# Altium integrated library Motorola Microcontroller 8-Bit.IntLib: 909 symbols (part 5 of 31)
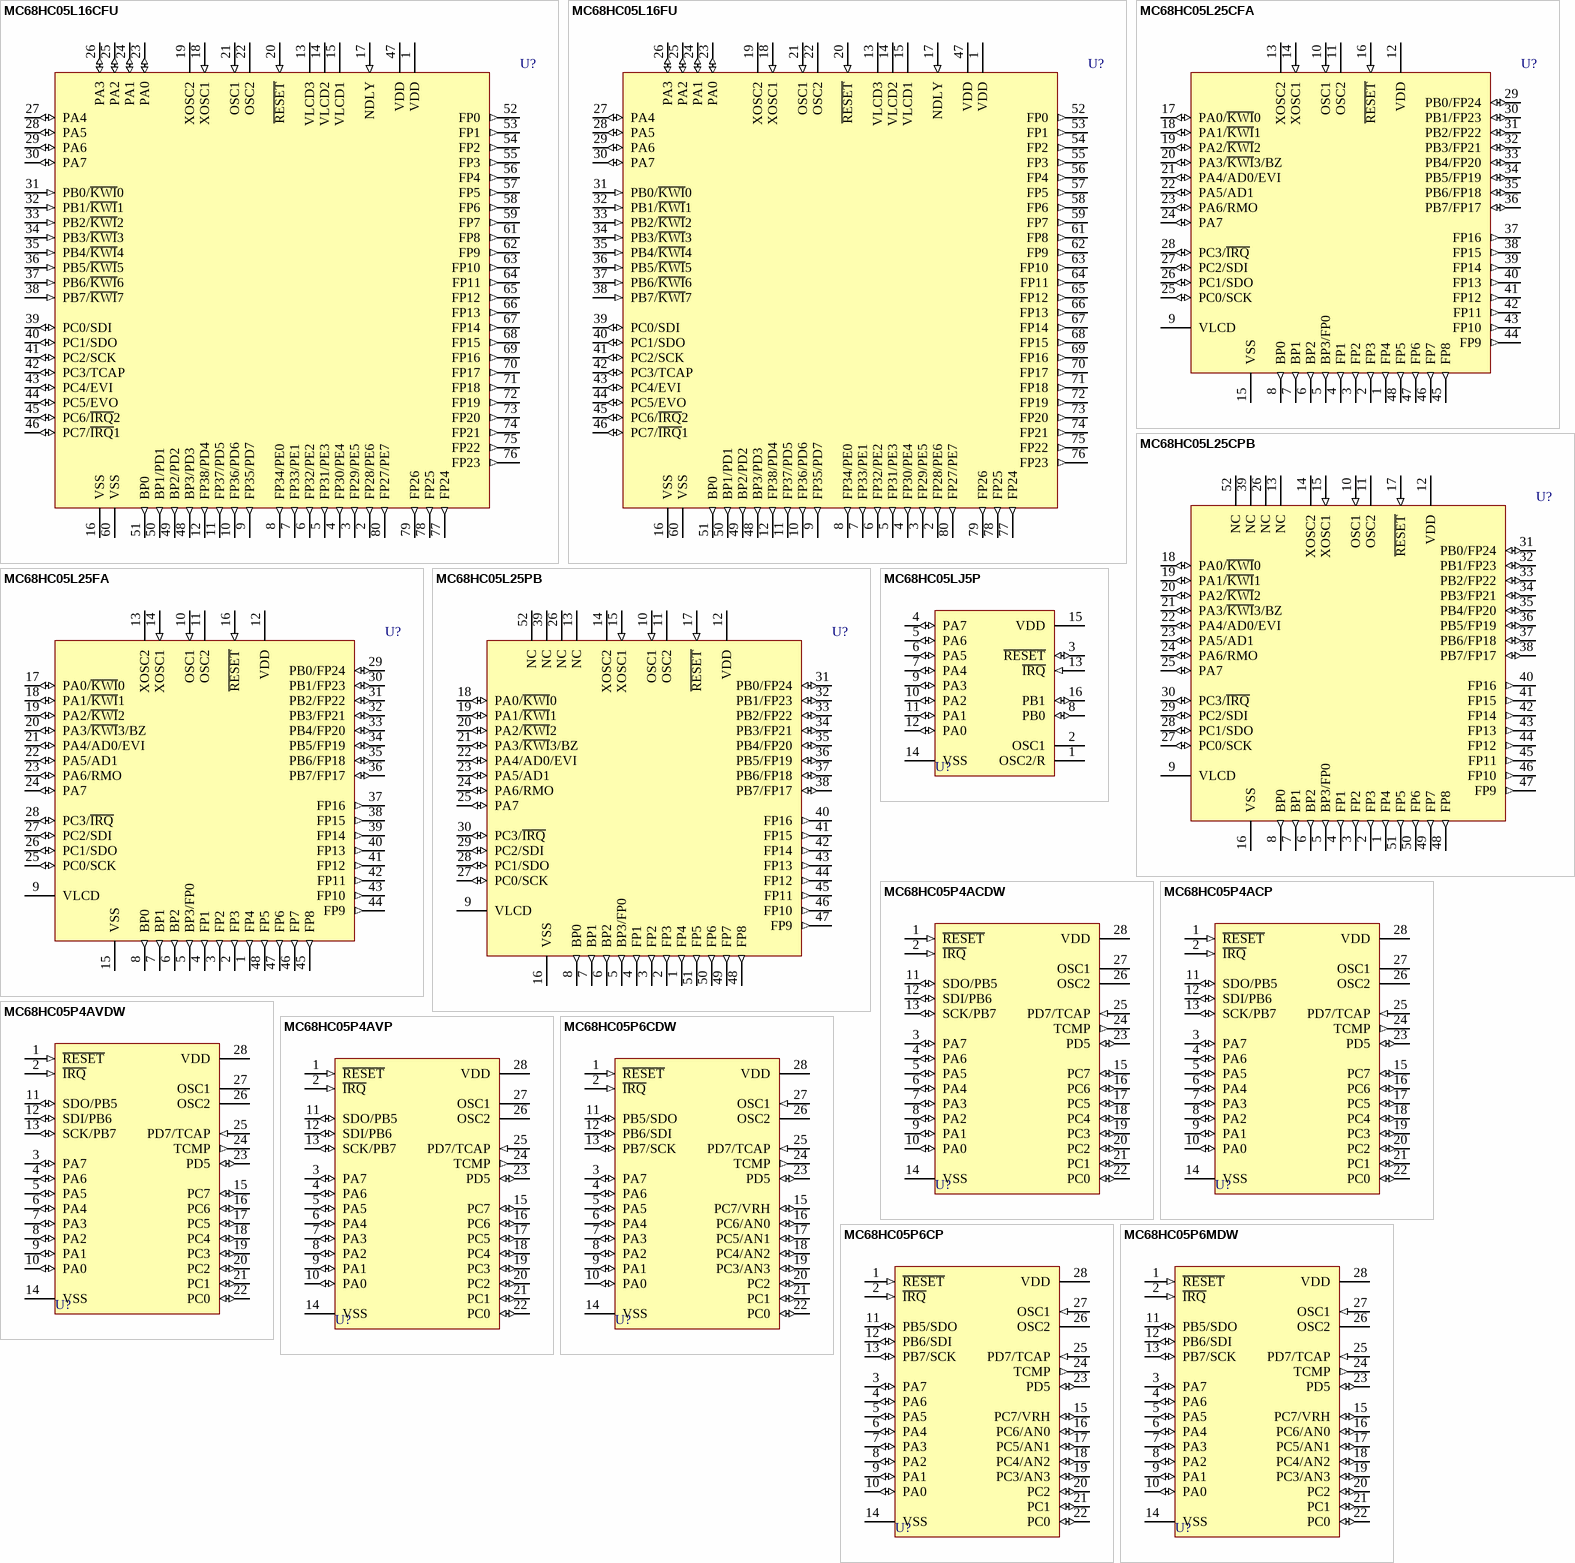
[diagram p117: symbols MC68HC05L16CFU to MC68HC05P6MDW]

## MC68HC05P6CP
designator U?
8-Bit Microcontroller; Published: 17-Jan-2003; LatestRevisionDate: 06-Jun-2005; LatestRevisionNote: Stylized 3D Model Added.; DatasheetVersion: Jan-1999; PackageReference: 710-02; Publisher: Altium Limited; PackageDescription: DIP; 28 Leads; Row Spacing 15.24 mm; Pitch 2.54 mm; ComponentLink1Description: Manufacturer Link; ComponentLink1URL: http://www.freescale.com/
footprint 710-02 (DIP; 28 Leads; Row Spacing 15.24 mm; Pitch 2.54 mm)
3D model 710-02 (DIP; 28 Leads; Row Spacing 15.24 mm; Pitch 2.54 mm)
pins: 1 ~{RESET} (in), 2 ~{IRQ} (in), 3 PA7 (io), 4 PA6 (io), 5 PA5 (io), 6 PA4 (io), 7 PA3 (io), 8 PA2 (io), 9 PA1 (io), 10 PA0 (io), 11 PB5/SDO (io), 12 PB6/SDI (io), 13 PB7/SCK (io), 14 VSS (power), 15 PC7/VRH (io), 16 PC6/AN0 (io), 17 PC5/AN1 (io), 18 PC4/AN2 (io), 19 PC3/AN3 (io), 20 PC2 (io), 21 PC1 (io), 22 PC0 (io), 23 PD5 (io), 24 TCMP (out), 25 PD7/TCAP (in), 26 OSC2, 27 OSC1 (in), 28 VDD (power)

## MC68HC05P6MDW
designator U?
8-Bit Microcontroller; Published: 17-Jan-2003; LatestRevisionDate: 13-Apr-2006; LatestRevisionNote: IPC-7351 Footprint Added.; DatasheetVersion: Jan-1999; PackageReference: 751F-03; Publisher: Altium Limited; PackageDescription: 28-Pin Small Outline Integrated Circuit 1.27 mm Pitch; ComponentLink1Description: Manufacturer Link; ComponentLink1URL: http://www.freescale.com/
footprint 751F-03_N (SOIC, 28-Leads, Body 17.9x7.5mm, Pitch 1.27mm, IPC Medium Density)
footprint 751F-03_L (SOIC, 28-Leads, Body 17.9x7.5mm, Pitch 1.27mm, IPC High Density)
footprint 751F-03_M (SOIC, 28-Leads, Body 17.9x7.5mm, Pitch 1.27mm, IPC Low Density)
3D model 751F-03 (28-Pin Small Outline Integrated Circuit 1.27 mm Pitch)
pins: 1 ~{RESET} (in), 2 ~{IRQ} (in), 3 PA7 (io), 4 PA6 (io), 5 PA5 (io), 6 PA4 (io), 7 PA3 (io), 8 PA2 (io), 9 PA1 (io), 10 PA0 (io), 11 PB5/SDO (io), 12 PB6/SDI (io), 13 PB7/SCK (io), 14 VSS (power), 15 PC7/VRH (io), 16 PC6/AN0 (io), 17 PC5/AN1 (io), 18 PC4/AN2 (io), 19 PC3/AN3 (io), 20 PC2 (io), 21 PC1 (io), 22 PC0 (io), 23 PD5 (io), 24 TCMP (out), 25 PD7/TCAP (in), 26 OSC2, 27 OSC1 (in), 28 VDD (power)

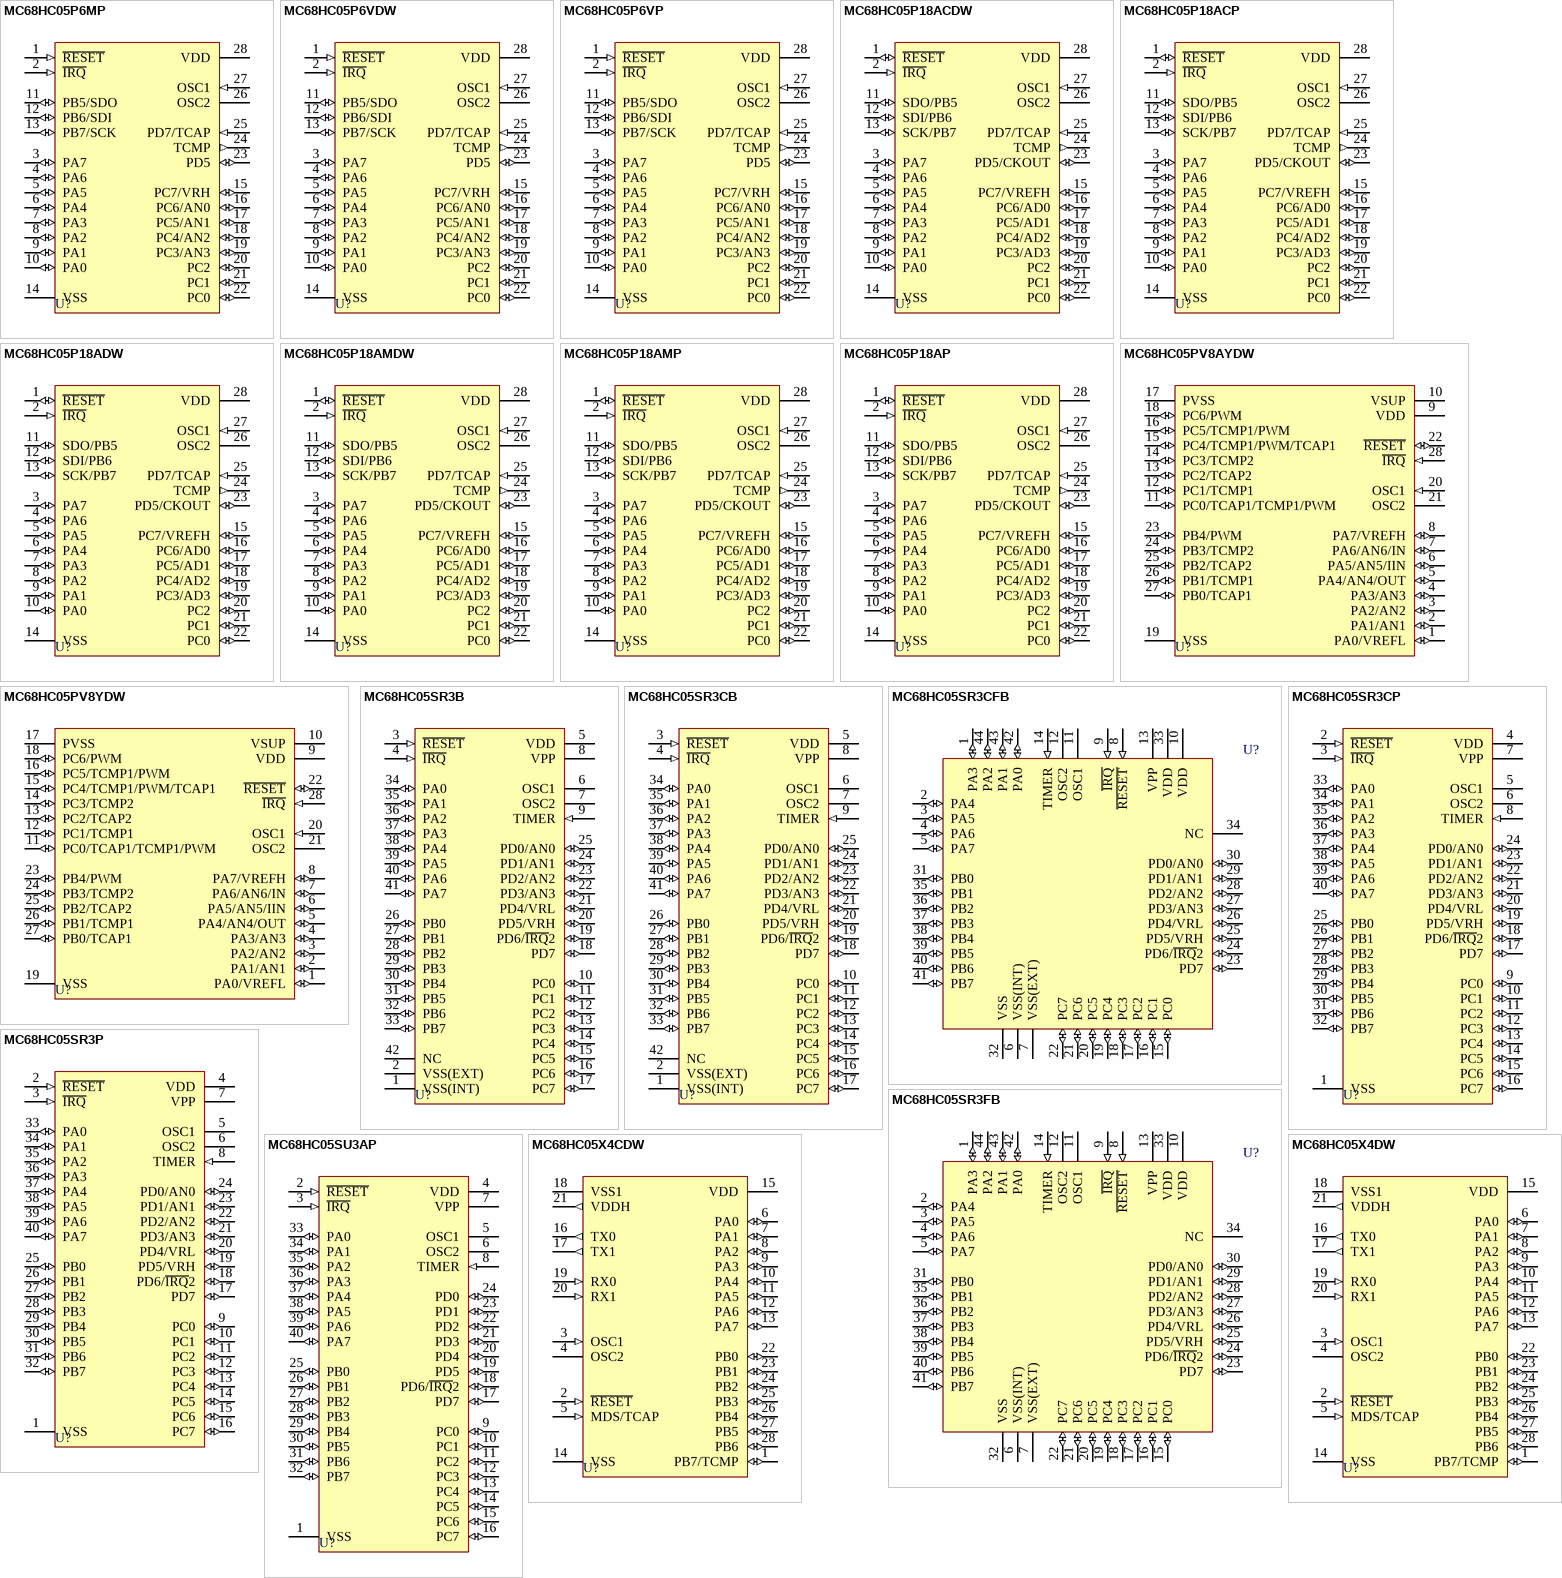
[diagram p12: symbols MC68HC05P6MP to MC68HC05X4DW]

## MC68HC05P6MP
designator U?
8-Bit Microcontroller; Published: 17-Jan-2003; LatestRevisionDate: 06-Jun-2005; LatestRevisionNote: Stylized 3D Model Added.; DatasheetVersion: Jan-1999; PackageReference: 710-02; Publisher: Altium Limited; PackageDescription: DIP; 28 Leads; Row Spacing 15.24 mm; Pitch 2.54 mm; ComponentLink1Description: Manufacturer Link; ComponentLink1URL: http://www.freescale.com/
footprint 710-02 (DIP; 28 Leads; Row Spacing 15.24 mm; Pitch 2.54 mm)
3D model 710-02 (DIP; 28 Leads; Row Spacing 15.24 mm; Pitch 2.54 mm)
pins: 1 ~{RESET} (in), 2 ~{IRQ} (in), 3 PA7 (io), 4 PA6 (io), 5 PA5 (io), 6 PA4 (io), 7 PA3 (io), 8 PA2 (io), 9 PA1 (io), 10 PA0 (io), 11 PB5/SDO (io), 12 PB6/SDI (io), 13 PB7/SCK (io), 14 VSS (power), 15 PC7/VRH (io), 16 PC6/AN0 (io), 17 PC5/AN1 (io), 18 PC4/AN2 (io), 19 PC3/AN3 (io), 20 PC2 (io), 21 PC1 (io), 22 PC0 (io), 23 PD5 (io), 24 TCMP (out), 25 PD7/TCAP (in), 26 OSC2, 27 OSC1 (in), 28 VDD (power)

## MC68HC05P6VDW
designator U?
8-Bit Microcontroller; Published: 17-Jan-2003; LatestRevisionDate: 13-Apr-2006; LatestRevisionNote: IPC-7351 Footprint Added.; DatasheetVersion: Jan-1999; PackageReference: 751F-03; Publisher: Altium Limited; PackageDescription: 28-Pin Small Outline Integrated Circuit 1.27 mm Pitch; ComponentLink1Description: Manufacturer Link; ComponentLink1URL: http://www.freescale.com/
footprint 751F-03_N (SOIC, 28-Leads, Body 17.9x7.5mm, Pitch 1.27mm, IPC Medium Density)
footprint 751F-03_L (SOIC, 28-Leads, Body 17.9x7.5mm, Pitch 1.27mm, IPC High Density)
footprint 751F-03_M (SOIC, 28-Leads, Body 17.9x7.5mm, Pitch 1.27mm, IPC Low Density)
3D model 751F-03 (28-Pin Small Outline Integrated Circuit 1.27 mm Pitch)
pins: 1 ~{RESET} (in), 2 ~{IRQ} (in), 3 PA7 (io), 4 PA6 (io), 5 PA5 (io), 6 PA4 (io), 7 PA3 (io), 8 PA2 (io), 9 PA1 (io), 10 PA0 (io), 11 PB5/SDO (io), 12 PB6/SDI (io), 13 PB7/SCK (io), 14 VSS (power), 15 PC7/VRH (io), 16 PC6/AN0 (io), 17 PC5/AN1 (io), 18 PC4/AN2 (io), 19 PC3/AN3 (io), 20 PC2 (io), 21 PC1 (io), 22 PC0 (io), 23 PD5 (io), 24 TCMP (out), 25 PD7/TCAP (in), 26 OSC2, 27 OSC1 (in), 28 VDD (power)

## MC68HC05P6VP
designator U?
8-Bit Microcontroller; Published: 17-Jan-2003; LatestRevisionDate: 06-Jun-2005; LatestRevisionNote: Stylized 3D Model Added.; DatasheetVersion: Jan-1999; PackageReference: 710-02; Publisher: Altium Limited; PackageDescription: DIP; 28 Leads; Row Spacing 15.24 mm; Pitch 2.54 mm; ComponentLink1Description: Manufacturer Link; ComponentLink1URL: http://www.freescale.com/
footprint 710-02 (DIP; 28 Leads; Row Spacing 15.24 mm; Pitch 2.54 mm)
3D model 710-02 (DIP; 28 Leads; Row Spacing 15.24 mm; Pitch 2.54 mm)
pins: 1 ~{RESET} (in), 2 ~{IRQ} (in), 3 PA7 (io), 4 PA6 (io), 5 PA5 (io), 6 PA4 (io), 7 PA3 (io), 8 PA2 (io), 9 PA1 (io), 10 PA0 (io), 11 PB5/SDO (io), 12 PB6/SDI (io), 13 PB7/SCK (io), 14 VSS (power), 15 PC7/VRH (io), 16 PC6/AN0 (io), 17 PC5/AN1 (io), 18 PC4/AN2 (io), 19 PC3/AN3 (io), 20 PC2 (io), 21 PC1 (io), 22 PC0 (io), 23 PD5 (io), 24 TCMP (out), 25 PD7/TCAP (in), 26 OSC2, 27 OSC1 (in), 28 VDD (power)

## MC68HC05P18ACDW
designator U?
8-Bit Microcontroller; Published: 17-Jan-2003; LatestRevisionDate: 13-Apr-2006; LatestRevisionNote: IPC-7351 Footprint Added.; DatasheetVersion: 23-Feb-2000; PackageReference: 751F-03; Publisher: Altium Limited; PackageDescription: 28-Pin Small Outline Integrated Circuit 1.27 mm Pitch; ComponentLink1Description: Manufacturer Link; ComponentLink1URL: http://www.freescale.com/; ComponentLink2Description: Datasheet; ComponentLink2URL: http://www.freescale.com/files/microcontrollers/doc/data_sheet/MC68HC05P18A.pdf
footprint 751F-03_N (SOIC, 28-Leads, Body 17.9x7.5mm, Pitch 1.27mm, IPC Medium Density)
footprint 751F-03_L (SOIC, 28-Leads, Body 17.9x7.5mm, Pitch 1.27mm, IPC High Density)
footprint 751F-03_M (SOIC, 28-Leads, Body 17.9x7.5mm, Pitch 1.27mm, IPC Low Density)
3D model 751F-03 (28-Pin Small Outline Integrated Circuit 1.27 mm Pitch)
pins: 1 ~{RESET} (io), 2 ~{IRQ} (in), 3 PA7 (io), 4 PA6 (io), 5 PA5 (io), 6 PA4 (io), 7 PA3 (io), 8 PA2 (io), 9 PA1 (io), 10 PA0 (io), 11 SDO/PB5 (io), 12 SDI/PB6 (io), 13 SCK/PB7 (io), 14 VSS (power), 15 PC7/VREFH (io), 16 PC6/AD0 (io), 17 PC5/AD1 (io), 18 PC4/AD2 (io), 19 PC3/AD3 (io), 20 PC2 (io), 21 PC1 (io), 22 PC0 (io), 23 PD5/CKOUT (io), 24 TCMP (out), 25 PD7/TCAP (in), 26 OSC2, 27 OSC1 (in), 28 VDD (power)

## MC68HC05P18ACP
designator U?
8-Bit Microcontroller; Published: 17-Jan-2003; LatestRevisionDate: 06-Jun-2005; LatestRevisionNote: Stylized 3D Model Added.; DatasheetVersion: 23-Feb-2000; PackageReference: 710-02; Publisher: Altium Limited; PackageDescription: DIP; 28 Leads; Row Spacing 15.24 mm; Pitch 2.54 mm; ComponentLink1Description: Manufacturer Link; ComponentLink1URL: http://www.freescale.com/; ComponentLink2Description: Datasheet; ComponentLink2URL: http://www.freescale.com/files/microcontrollers/doc/data_sheet/MC68HC05P18A.pdf
footprint 710-02 (DIP; 28 Leads; Row Spacing 15.24 mm; Pitch 2.54 mm)
3D model 710-02 (DIP; 28 Leads; Row Spacing 15.24 mm; Pitch 2.54 mm)
pins: 1 ~{RESET} (io), 2 ~{IRQ} (in), 3 PA7 (io), 4 PA6 (io), 5 PA5 (io), 6 PA4 (io), 7 PA3 (io), 8 PA2 (io), 9 PA1 (io), 10 PA0 (io), 11 SDO/PB5 (io), 12 SDI/PB6 (io), 13 SCK/PB7 (io), 14 VSS (power), 15 PC7/VREFH (io), 16 PC6/AD0 (io), 17 PC5/AD1 (io), 18 PC4/AD2 (io), 19 PC3/AD3 (io), 20 PC2 (io), 21 PC1 (io), 22 PC0 (io), 23 PD5/CKOUT (io), 24 TCMP (out), 25 PD7/TCAP (in), 26 OSC2, 27 OSC1 (in), 28 VDD (power)

## MC68HC05P18ADW
designator U?
8-Bit Microcontroller; Published: 17-Jan-2003; LatestRevisionDate: 13-Apr-2006; LatestRevisionNote: IPC-7351 Footprint Added.; DatasheetVersion: 23-Feb-2000; PackageReference: 751F-03; Publisher: Altium Limited; PackageDescription: 28-Pin Small Outline Integrated Circuit 1.27 mm Pitch; ComponentLink1Description: Manufacturer Link; ComponentLink1URL: http://www.freescale.com/; ComponentLink2Description: Datasheet; ComponentLink2URL: http://www.freescale.com/files/microcontrollers/doc/data_sheet/MC68HC05P18A.pdf
footprint 751F-03_N (SOIC, 28-Leads, Body 17.9x7.5mm, Pitch 1.27mm, IPC Medium Density)
footprint 751F-03_L (SOIC, 28-Leads, Body 17.9x7.5mm, Pitch 1.27mm, IPC High Density)
footprint 751F-03_M (SOIC, 28-Leads, Body 17.9x7.5mm, Pitch 1.27mm, IPC Low Density)
3D model 751F-03 (28-Pin Small Outline Integrated Circuit 1.27 mm Pitch)
pins: 1 ~{RESET} (io), 2 ~{IRQ} (in), 3 PA7 (io), 4 PA6 (io), 5 PA5 (io), 6 PA4 (io), 7 PA3 (io), 8 PA2 (io), 9 PA1 (io), 10 PA0 (io), 11 SDO/PB5 (io), 12 SDI/PB6 (io), 13 SCK/PB7 (io), 14 VSS (power), 15 PC7/VREFH (io), 16 PC6/AD0 (io), 17 PC5/AD1 (io), 18 PC4/AD2 (io), 19 PC3/AD3 (io), 20 PC2 (io), 21 PC1 (io), 22 PC0 (io), 23 PD5/CKOUT (io), 24 TCMP (out), 25 PD7/TCAP (in), 26 OSC2, 27 OSC1 (in), 28 VDD (power)

## MC68HC05P18AMDW
designator U?
8-Bit Microcontroller; Published: 17-Jan-2003; LatestRevisionDate: 13-Apr-2006; LatestRevisionNote: IPC-7351 Footprint Added.; DatasheetVersion: 23-Feb-2000; PackageReference: 751F-03; Publisher: Altium Limited; PackageDescription: 28-Pin Small Outline Integrated Circuit 1.27 mm Pitch; ComponentLink1Description: Manufacturer Link; ComponentLink1URL: http://www.freescale.com/; ComponentLink2Description: Datasheet; ComponentLink2URL: http://www.freescale.com/files/microcontrollers/doc/data_sheet/MC68HC05P18A.pdf
footprint 751F-03_N (SOIC, 28-Leads, Body 17.9x7.5mm, Pitch 1.27mm, IPC Medium Density)
footprint 751F-03_L (SOIC, 28-Leads, Body 17.9x7.5mm, Pitch 1.27mm, IPC High Density)
footprint 751F-03_M (SOIC, 28-Leads, Body 17.9x7.5mm, Pitch 1.27mm, IPC Low Density)
3D model 751F-03 (28-Pin Small Outline Integrated Circuit 1.27 mm Pitch)
pins: 1 ~{RESET} (io), 2 ~{IRQ} (in), 3 PA7 (io), 4 PA6 (io), 5 PA5 (io), 6 PA4 (io), 7 PA3 (io), 8 PA2 (io), 9 PA1 (io), 10 PA0 (io), 11 SDO/PB5 (io), 12 SDI/PB6 (io), 13 SCK/PB7 (io), 14 VSS (power), 15 PC7/VREFH (io), 16 PC6/AD0 (io), 17 PC5/AD1 (io), 18 PC4/AD2 (io), 19 PC3/AD3 (io), 20 PC2 (io), 21 PC1 (io), 22 PC0 (io), 23 PD5/CKOUT (io), 24 TCMP (out), 25 PD7/TCAP (in), 26 OSC2, 27 OSC1 (in), 28 VDD (power)

## MC68HC05P18AMP
designator U?
8-Bit Microcontroller; Published: 17-Jan-2003; LatestRevisionDate: 06-Jun-2005; LatestRevisionNote: Stylized 3D Model Added.; DatasheetVersion: 23-Feb-2000; PackageReference: 710-02; Publisher: Altium Limited; PackageDescription: DIP; 28 Leads; Row Spacing 15.24 mm; Pitch 2.54 mm; ComponentLink1Description: Manufacturer Link; ComponentLink1URL: http://www.freescale.com/; ComponentLink2Description: Datasheet; ComponentLink2URL: http://www.freescale.com/files/microcontrollers/doc/data_sheet/MC68HC05P18A.pdf
footprint 710-02 (DIP; 28 Leads; Row Spacing 15.24 mm; Pitch 2.54 mm)
3D model 710-02 (DIP; 28 Leads; Row Spacing 15.24 mm; Pitch 2.54 mm)
pins: 1 ~{RESET} (io), 2 ~{IRQ} (in), 3 PA7 (io), 4 PA6 (io), 5 PA5 (io), 6 PA4 (io), 7 PA3 (io), 8 PA2 (io), 9 PA1 (io), 10 PA0 (io), 11 SDO/PB5 (io), 12 SDI/PB6 (io), 13 SCK/PB7 (io), 14 VSS (power), 15 PC7/VREFH (io), 16 PC6/AD0 (io), 17 PC5/AD1 (io), 18 PC4/AD2 (io), 19 PC3/AD3 (io), 20 PC2 (io), 21 PC1 (io), 22 PC0 (io), 23 PD5/CKOUT (io), 24 TCMP (out), 25 PD7/TCAP (in), 26 OSC2, 27 OSC1 (in), 28 VDD (power)

## MC68HC05P18AP
designator U?
8-Bit Microcontroller; Published: 17-Jan-2003; LatestRevisionDate: 06-Jun-2005; LatestRevisionNote: Stylized 3D Model Added.; DatasheetVersion: 23-Feb-2000; PackageReference: 710-02; Publisher: Altium Limited; PackageDescription: DIP; 28 Leads; Row Spacing 15.24 mm; Pitch 2.54 mm; ComponentLink1Description: Manufacturer Link; ComponentLink1URL: http://www.freescale.com/; ComponentLink2Description: Datasheet; ComponentLink2URL: http://www.freescale.com/files/microcontrollers/doc/data_sheet/MC68HC05P18A.pdf
footprint 710-02 (DIP; 28 Leads; Row Spacing 15.24 mm; Pitch 2.54 mm)
3D model 710-02 (DIP; 28 Leads; Row Spacing 15.24 mm; Pitch 2.54 mm)
pins: 1 ~{RESET} (io), 2 ~{IRQ} (in), 3 PA7 (io), 4 PA6 (io), 5 PA5 (io), 6 PA4 (io), 7 PA3 (io), 8 PA2 (io), 9 PA1 (io), 10 PA0 (io), 11 SDO/PB5 (io), 12 SDI/PB6 (io), 13 SCK/PB7 (io), 14 VSS (power), 15 PC7/VREFH (io), 16 PC6/AD0 (io), 17 PC5/AD1 (io), 18 PC4/AD2 (io), 19 PC3/AD3 (io), 20 PC2 (io), 21 PC1 (io), 22 PC0 (io), 23 PD5/CKOUT (io), 24 TCMP (out), 25 PD7/TCAP (in), 26 OSC2, 27 OSC1 (in), 28 VDD (power)

## MC68HC05PV8AYDW
designator U?
8-Bit Microcontroller; Published: 17-Jan-2003; LatestRevisionDate: 13-Apr-2006; LatestRevisionNote: IPC-7351 Footprint Added.; DatasheetVersion: Rev 1.9, 2001; PackageReference: 751F-03; Publisher: Altium Limited; PackageDescription: 28-Pin Small Outline Integrated Circuit 1.27 mm Pitch; ComponentLink1Description: Manufacturer Link; ComponentLink1URL: http://www.freescale.com/; ComponentLink2Description: Datasheet; ComponentLink2URL: http://www.freescale.com/files/microcontrollers/doc/data_sheet/MC68HC05PV8.pdf
footprint 751F-03_N (SOIC, 28-Leads, Body 17.9x7.5mm, Pitch 1.27mm, IPC Medium Density)
footprint 751F-03_L (SOIC, 28-Leads, Body 17.9x7.5mm, Pitch 1.27mm, IPC High Density)
footprint 751F-03_M (SOIC, 28-Leads, Body 17.9x7.5mm, Pitch 1.27mm, IPC Low Density)
3D model 751F-03 (28-Pin Small Outline Integrated Circuit 1.27 mm Pitch)
pins: 1 PA0/VREFL (io), 2 PA1/AN1 (io), 3 PA2/AN2 (io), 4 PA3/AN3 (io), 5 PA4/AN4/OUT (io), 6 PA5/AN5/IIN (io), 7 PA6/AN6/IN (io), 8 PA7/VREFH (io), 9 VDD (power), 10 VSUP (power), 11 PC0/TCAP1/TCMP1/PWM (io), 12 PC1/TCMP1 (io), 13 PC2/TCAP2 (io), 14 PC3/TCMP2 (io), 15 PC4/TCMP1/PWM/TCAP1 (io), 16 PC5/TCMP1/PWM (io), 17 PVSS (power), 18 PC6/PWM (io), 19 VSS (power), 20 OSC1 (in), 21 OSC2, 22 ~{RESET} (io), 23 PB4/PWM (io), 24 PB3/TCMP2 (io), 25 PB2/TCAP2 (io), 26 PB1/TCMP1 (io), 27 PB0/TCAP1 (io), 28 ~{IRQ} (in)

## MC68HC05PV8YDW
designator U?
8-Bit Microcontroller; Published: 17-Jan-2003; LatestRevisionDate: 13-Apr-2006; LatestRevisionNote: IPC-7351 Footprint Added.; DatasheetVersion: Rev 1.9, 2001; PackageReference: 751F-03; Publisher: Altium Limited; PackageDescription: 28-Pin Small Outline Integrated Circuit 1.27 mm Pitch; ComponentLink1Description: Manufacturer Link; ComponentLink1URL: http://www.freescale.com/; ComponentLink2Description: Datasheet; ComponentLink2URL: http://www.freescale.com/files/microcontrollers/doc/data_sheet/MC68HC05PV8.pdf
footprint 751F-03_N (SOIC, 28-Leads, Body 17.9x7.5mm, Pitch 1.27mm, IPC Medium Density)
footprint 751F-03_L (SOIC, 28-Leads, Body 17.9x7.5mm, Pitch 1.27mm, IPC High Density)
footprint 751F-03_M (SOIC, 28-Leads, Body 17.9x7.5mm, Pitch 1.27mm, IPC Low Density)
3D model 751F-03 (28-Pin Small Outline Integrated Circuit 1.27 mm Pitch)
pins: 1 PA0/VREFL (io), 2 PA1/AN1 (io), 3 PA2/AN2 (io), 4 PA3/AN3 (io), 5 PA4/AN4/OUT (io), 6 PA5/AN5/IIN (io), 7 PA6/AN6/IN (io), 8 PA7/VREFH (io), 9 VDD (power), 10 VSUP (power), 11 PC0/TCAP1/TCMP1/PWM (io), 12 PC1/TCMP1 (io), 13 PC2/TCAP2 (io), 14 PC3/TCMP2 (io), 15 PC4/TCMP1/PWM/TCAP1 (io), 16 PC5/TCMP1/PWM (io), 17 PVSS (power), 18 PC6/PWM (io), 19 VSS (power), 20 OSC1 (in), 21 OSC2, 22 ~{RESET} (io), 23 PB4/PWM (io), 24 PB3/TCMP2 (io), 25 PB2/TCAP2 (io), 26 PB1/TCMP1 (io), 27 PB0/TCAP1 (io), 28 ~{IRQ} (in)

## MC68HC05SR3B
designator U?
8-Bit Microcontroller; Published: 17-Jan-2003; LatestRevisionDate: 06-Jun-2005; LatestRevisionNote: Stylized 3D Model Added.; DatasheetVersion: Rev 2, 2000; PackageVersion: rev5, Apr-2002; PackageReference: 858-01; Publisher: Altium Limited; PackageDescription: DIP, Plastic; 42 Leads; Row Spacing 15.24 mm; Pitch 1.778 mm; ComponentLink1Description: Manufacturer Link; ComponentLink1URL: http://www.freescale.com/
footprint 858-01 (DIP, Plastic; 42 Leads; Row Spacing 15.24 mm; Pitch 1.778 mm)
3D model 858-01 (DIP, Plastic; 42 Leads; Row Spacing 15.24 mm; Pitch 1.778 mm)
pins: 1 VSS(INT) (power), 2 VSS(EXT) (power), 3 ~{RESET} (in), 4 ~{IRQ} (in), 5 VDD (power), 6 OSC1, 7 OSC2, 8 VPP (power), 9 TIMER (in), 10 PC0 (io), 11 PC1 (io), 12 PC2 (io), 13 PC3 (io), 14 PC4 (io), 15 PC5 (io), 16 PC6 (io), 17 PC7 (io), 18 PD7 (io), 19 PD6/~{IRQ}2 (io), 20 PD5/VRH (io), 21 PD4/VRL (io), 22 PD3/AN3 (io), 23 PD2/AN2 (io), 24 PD1/AN1 (io), 25 PD0/AN0 (io), 26 PB0 (io), 27 PB1 (io), 28 PB2 (io), 29 PB3 (io), 30 PB4 (io), 31 PB5 (io), 32 PB6 (io), 33 PB7 (io), 34 PA0 (io), 35 PA1 (io), 36 PA2 (io), 37 PA3 (io), 38 PA4 (io), 39 PA5 (io), 40 PA6 (io), 41 PA7 (io), 42 NC

## MC68HC05SR3CB
designator U?
8-Bit Microcontroller; Published: 17-Jan-2003; LatestRevisionDate: 06-Jun-2005; LatestRevisionNote: Stylized 3D Model Added.; DatasheetVersion: Rev 2, 2000; PackageVersion: rev5, Apr-2002; PackageReference: 858-01; Publisher: Altium Limited; PackageDescription: DIP, Plastic; 42 Leads; Row Spacing 15.24 mm; Pitch 1.778 mm; ComponentLink1Description: Manufacturer Link; ComponentLink1URL: http://www.freescale.com/
footprint 858-01 (DIP, Plastic; 42 Leads; Row Spacing 15.24 mm; Pitch 1.778 mm)
3D model 858-01 (DIP, Plastic; 42 Leads; Row Spacing 15.24 mm; Pitch 1.778 mm)
pins: 1 VSS(INT) (power), 2 VSS(EXT) (power), 3 ~{RESET} (in), 4 ~{IRQ} (in), 5 VDD (power), 6 OSC1, 7 OSC2, 8 VPP (power), 9 TIMER (in), 10 PC0 (io), 11 PC1 (io), 12 PC2 (io), 13 PC3 (io), 14 PC4 (io), 15 PC5 (io), 16 PC6 (io), 17 PC7 (io), 18 PD7 (io), 19 PD6/~{IRQ}2 (io), 20 PD5/VRH (io), 21 PD4/VRL (io), 22 PD3/AN3 (io), 23 PD2/AN2 (io), 24 PD1/AN1 (io), 25 PD0/AN0 (io), 26 PB0 (io), 27 PB1 (io), 28 PB2 (io), 29 PB3 (io), 30 PB4 (io), 31 PB5 (io), 32 PB6 (io), 33 PB7 (io), 34 PA0 (io), 35 PA1 (io), 36 PA2 (io), 37 PA3 (io), 38 PA4 (io), 39 PA5 (io), 40 PA6 (io), 41 PA7 (io), 42 NC

## MC68HC05SR3CFB
designator U?
8-Bit Microcontroller; Published: 17-Jan-2003; LatestRevisionDate: 13-Apr-2006; LatestRevisionNote: IPC-7351 Footprint Added.; DatasheetVersion: Rev 2, 2000; PackageVersion: rev5, Apr-2002; PackageReference: 824A-01; Publisher: Altium Limited; PackageDescription: 44-Pin Quad Flat Pack 0.8 mm Pitch; Code_JEDEC: MS-022-AB; Code_IPC: QFP80P1320X1320-44; ComponentLink1Description: Manufacturer Link; ComponentLink1URL: http://www.freescale.com/
footprint 824A-01_N (QFP, 44-Leads, Body 10x10mm, Pitch 0.8mm, IPC Medium Density)
footprint 824A-01_L (QFP, 44-Leads, Body 10x10mm, Pitch 0.8mm, IPC High Density)
footprint 824A-01_M (QFP, 44-Leads, Body 10x10mm, Pitch 0.8mm, IPC Low Density)
3D model MC68HC05-824A-01 (44-Pin Quad Flat Pack 0.8 mm Pitch)
pins: 1 PA3 (io), 2 PA4 (io), 3 PA5 (io), 4 PA6 (io), 5 PA7 (io), 6 VSS(INT) (power), 7 VSS(EXT) (power), 8 ~{RESET} (in), 9 ~{IRQ} (in), 10 VDD (power), 11 OSC1, 12 OSC2, 13 VPP (power), 14 TIMER (in), 15 PC0 (io), 16 PC1 (io), 17 PC2 (io), 18 PC3 (io), 19 PC4 (io), 20 PC5 (io), 21 PC6 (io), 22 PC7 (io), 23 PD7 (io), 24 PD6/~{IRQ}2 (io), 25 PD5/VRH (io), 26 PD4/VRL (io), 27 PD3/AN3 (io), 28 PD2/AN2 (io), 29 PD1/AN1 (io), 30 PD0/AN0 (io), 31 PB0 (io), 32 VSS (power), 33 VDD (power), 34 NC, 35 PB1 (io), 36 PB2 (io), 37 PB3 (io), 38 PB4 (io), 39 PB5 (io), 40 PB6 (io), 41 PB7 (io), 42 PA0 (io), 43 PA1 (io), 44 PA2 (io)

## MC68HC05SR3CP
designator U?
8-Bit Microcontroller; Published: 17-Jan-2003; LatestRevisionDate: 06-Jun-2005; LatestRevisionNote: Stylized 3D Model Added.; DatasheetVersion: Rev 2, 2000; PackageReference: 711-03; Publisher: Altium Limited; PackageDescription: DIP; 40 Leads; Row Spacing 15.24 mm; Pitch 2.54 mm; ComponentLink1Description: Manufacturer Link; ComponentLink1URL: http://www.freescale.com/
footprint 711-03 (DIP; 40 Leads; Row Spacing 15.24 mm; Pitch 2.54 mm)
3D model 711-03 (DIP; 40 Leads; Row Spacing 15.24 mm; Pitch 2.54 mm)
pins: 1 VSS (power), 2 ~{RESET} (in), 3 ~{IRQ} (in), 4 VDD (power), 5 OSC1, 6 OSC2, 7 VPP (power), 8 TIMER (in), 9 PC0 (io), 10 PC1 (io), 11 PC2 (io), 12 PC3 (io), 13 PC4 (io), 14 PC5 (io), 15 PC6 (io), 16 PC7 (io), 17 PD7 (io), 18 PD6/~{IRQ}2 (io), 19 PD5/VRH (io), 20 PD4/VRL (io), 21 PD3/AN3 (io), 22 PD2/AN2 (io), 23 PD1/AN1 (io), 24 PD0/AN0 (io), 25 PB0 (io), 26 PB1 (io), 27 PB2 (io), 28 PB3 (io), 29 PB4 (io), 30 PB5 (io), 31 PB6 (io), 32 PB7 (io), 33 PA0 (io), 34 PA1 (io), 35 PA2 (io), 36 PA3 (io), 37 PA4 (io), 38 PA5 (io), 39 PA6 (io), 40 PA7 (io)

## MC68HC05SR3FB
designator U?
8-Bit Microcontroller; Published: 17-Jan-2003; LatestRevisionDate: 13-Apr-2006; LatestRevisionNote: IPC-7351 Footprint Added.; DatasheetVersion: Rev 2, 2000; PackageVersion: rev5, Apr-2002; PackageReference: 824A-01; Publisher: Altium Limited; PackageDescription: 44-Pin Quad Flat Pack 0.8 mm Pitch; Code_JEDEC: MS-022-AB; Code_IPC: QFP80P1320X1320-44; ComponentLink1Description: Manufacturer Link; ComponentLink1URL: http://www.freescale.com/
footprint 824A-01_N (QFP, 44-Leads, Body 10x10mm, Pitch 0.8mm, IPC Medium Density)
footprint 824A-01_L (QFP, 44-Leads, Body 10x10mm, Pitch 0.8mm, IPC High Density)
footprint 824A-01_M (QFP, 44-Leads, Body 10x10mm, Pitch 0.8mm, IPC Low Density)
3D model MC68HC05-824A-01 (44-Pin Quad Flat Pack 0.8 mm Pitch)
pins: 1 PA3 (io), 2 PA4 (io), 3 PA5 (io), 4 PA6 (io), 5 PA7 (io), 6 VSS(INT) (power), 7 VSS(EXT) (power), 8 ~{RESET} (in), 9 ~{IRQ} (in), 10 VDD (power), 11 OSC1, 12 OSC2, 13 VPP (power), 14 TIMER (in), 15 PC0 (io), 16 PC1 (io), 17 PC2 (io), 18 PC3 (io), 19 PC4 (io), 20 PC5 (io), 21 PC6 (io), 22 PC7 (io), 23 PD7 (io), 24 PD6/~{IRQ}2 (io), 25 PD5/VRH (io), 26 PD4/VRL (io), 27 PD3/AN3 (io), 28 PD2/AN2 (io), 29 PD1/AN1 (io), 30 PD0/AN0 (io), 31 PB0 (io), 32 VSS (power), 33 VDD (power), 34 NC, 35 PB1 (io), 36 PB2 (io), 37 PB3 (io), 38 PB4 (io), 39 PB5 (io), 40 PB6 (io), 41 PB7 (io), 42 PA0 (io), 43 PA1 (io), 44 PA2 (io)

## MC68HC05SR3P
designator U?
8-Bit Microcontroller; Published: 17-Jan-2003; LatestRevisionDate: 06-Jun-2005; LatestRevisionNote: Stylized 3D Model Added.; DatasheetVersion: Rev 2, 2000; PackageReference: 711-03; Publisher: Altium Limited; PackageDescription: DIP; 40 Leads; Row Spacing 15.24 mm; Pitch 2.54 mm; ComponentLink1Description: Manufacturer Link; ComponentLink1URL: http://www.freescale.com/
footprint 711-03 (DIP; 40 Leads; Row Spacing 15.24 mm; Pitch 2.54 mm)
3D model 711-03 (DIP; 40 Leads; Row Spacing 15.24 mm; Pitch 2.54 mm)
pins: 1 VSS (power), 2 ~{RESET} (in), 3 ~{IRQ} (in), 4 VDD (power), 5 OSC1, 6 OSC2, 7 VPP (power), 8 TIMER (in), 9 PC0 (io), 10 PC1 (io), 11 PC2 (io), 12 PC3 (io), 13 PC4 (io), 14 PC5 (io), 15 PC6 (io), 16 PC7 (io), 17 PD7 (io), 18 PD6/~{IRQ}2 (io), 19 PD5/VRH (io), 20 PD4/VRL (io), 21 PD3/AN3 (io), 22 PD2/AN2 (io), 23 PD1/AN1 (io), 24 PD0/AN0 (io), 25 PB0 (io), 26 PB1 (io), 27 PB2 (io), 28 PB3 (io), 29 PB4 (io), 30 PB5 (io), 31 PB6 (io), 32 PB7 (io), 33 PA0 (io), 34 PA1 (io), 35 PA2 (io), 36 PA3 (io), 37 PA4 (io), 38 PA5 (io), 39 PA6 (io), 40 PA7 (io)

## MC68HC05SU3AP
designator U?
8-Bit Microcontroller; Published: 17-Jan-2003; LatestRevisionDate: 06-Jun-2005; LatestRevisionNote: Stylized 3D Model Added.; DatasheetVersion: Rev 3, 2000; PackageReference: 711-03; Publisher: Altium Limited; PackageDescription: DIP; 40 Leads; Row Spacing 15.24 mm; Pitch 2.54 mm; ComponentLink1Description: Manufacturer Link; ComponentLink1URL: http://www.freescale.com/; ComponentLink2Description: Datasheet; ComponentLink2URL: http://www.freescale.com/files/microcontrollers/doc/data_sheet/MC68HC05SU3A.pdf
footprint 711-03 (DIP; 40 Leads; Row Spacing 15.24 mm; Pitch 2.54 mm)
3D model 711-03 (DIP; 40 Leads; Row Spacing 15.24 mm; Pitch 2.54 mm)
pins: 1 VSS (power), 2 ~{RESET} (in), 3 ~{IRQ} (in), 4 VDD (power), 5 OSC1, 6 OSC2, 7 VPP (power), 8 TIMER (in), 9 PC0 (io), 10 PC1 (io), 11 PC2 (io), 12 PC3 (io), 13 PC4 (io), 14 PC5 (io), 15 PC6 (io), 16 PC7 (io), 17 PD7 (io), 18 PD6/~{IRQ}2 (io), 19 PD5 (io), 20 PD4 (io), 21 PD3 (io), 22 PD2 (io), 23 PD1 (io), 24 PD0 (io), 25 PB0 (io), 26 PB1 (io), 27 PB2 (io), 28 PB3 (io), 29 PB4 (io), 30 PB5 (io), 31 PB6 (io), 32 PB7 (io), 33 PA0 (io), 34 PA1 (io), 35 PA2 (io), 36 PA3 (io), 37 PA4 (io), 38 PA5 (io), 39 PA6 (io), 40 PA7 (io)

## MC68HC05X4CDW
designator U?
8-Bit Microcontroller; Published: 17-Jan-2003; LatestRevisionDate: 13-Apr-2006; LatestRevisionNote: IPC-7351 Footprint Added.; DatasheetVersion: Rev 1.0, 1998; PackageReference: 751F-03; Publisher: Altium Limited; PackageDescription: 28-Pin Small Outline Integrated Circuit 1.27 mm Pitch; ComponentLink1Description: Manufacturer Link; ComponentLink1URL: http://www.freescale.com/; ComponentLink2Description: Datasheet; ComponentLink2URL: http://www.freescale.com/files/microcontrollers/doc/data_sheet/MC68HC05X4.pdf
footprint 751F-03_N (SOIC, 28-Leads, Body 17.9x7.5mm, Pitch 1.27mm, IPC Medium Density)
footprint 751F-03_L (SOIC, 28-Leads, Body 17.9x7.5mm, Pitch 1.27mm, IPC High Density)
footprint 751F-03_M (SOIC, 28-Leads, Body 17.9x7.5mm, Pitch 1.27mm, IPC Low Density)
3D model 751F-03 (28-Pin Small Outline Integrated Circuit 1.27 mm Pitch)
pins: 1 PB7/TCMP (io), 2 ~{RESET} (in), 3 OSC1 (in), 4 OSC2, 5 MDS/TCAP (in), 6 PA0 (io), 7 PA1 (io), 8 PA2 (io), 9 PA3 (io), 10 PA4 (io), 11 PA5 (io), 12 PA6 (io), 13 PA7 (io), 14 VSS (power), 15 VDD (power), 16 TX0 (out), 17 TX1 (out), 18 VSS1 (power), 19 RX0 (in), 20 RX1 (in), 21 VDDH (out), 22 PB0 (io), 23 PB1 (io), 24 PB2 (io), 25 PB3 (io), 26 PB4 (io), 27 PB5 (io), 28 PB6 (io)

## MC68HC05X4DW
designator U?
8-Bit Microcontroller; Published: 17-Jan-2003; LatestRevisionDate: 13-Apr-2006; LatestRevisionNote: IPC-7351 Footprint Added.; DatasheetVersion: Rev 1.0, 1998; PackageReference: 751F-03; Publisher: Altium Limited; PackageDescription: 28-Pin Small Outline Integrated Circuit 1.27 mm Pitch; ComponentLink1Description: Manufacturer Link; ComponentLink1URL: http://www.freescale.com/; ComponentLink2Description: Datasheet; ComponentLink2URL: http://www.freescale.com/files/microcontrollers/doc/data_sheet/MC68HC05X4.pdf
footprint 751F-03_N (SOIC, 28-Leads, Body 17.9x7.5mm, Pitch 1.27mm, IPC Medium Density)
footprint 751F-03_L (SOIC, 28-Leads, Body 17.9x7.5mm, Pitch 1.27mm, IPC High Density)
footprint 751F-03_M (SOIC, 28-Leads, Body 17.9x7.5mm, Pitch 1.27mm, IPC Low Density)
3D model 751F-03 (28-Pin Small Outline Integrated Circuit 1.27 mm Pitch)
pins: 1 PB7/TCMP (io), 2 ~{RESET} (in), 3 OSC1 (in), 4 OSC2, 5 MDS/TCAP (in), 6 PA0 (io), 7 PA1 (io), 8 PA2 (io), 9 PA3 (io), 10 PA4 (io), 11 PA5 (io), 12 PA6 (io), 13 PA7 (io), 14 VSS (power), 15 VDD (power), 16 TX0 (out), 17 TX1 (out), 18 VSS1 (power), 19 RX0 (in), 20 RX1 (in), 21 VDDH (out), 22 PB0 (io), 23 PB1 (io), 24 PB2 (io), 25 PB3 (io), 26 PB4 (io), 27 PB5 (io), 28 PB6 (io)

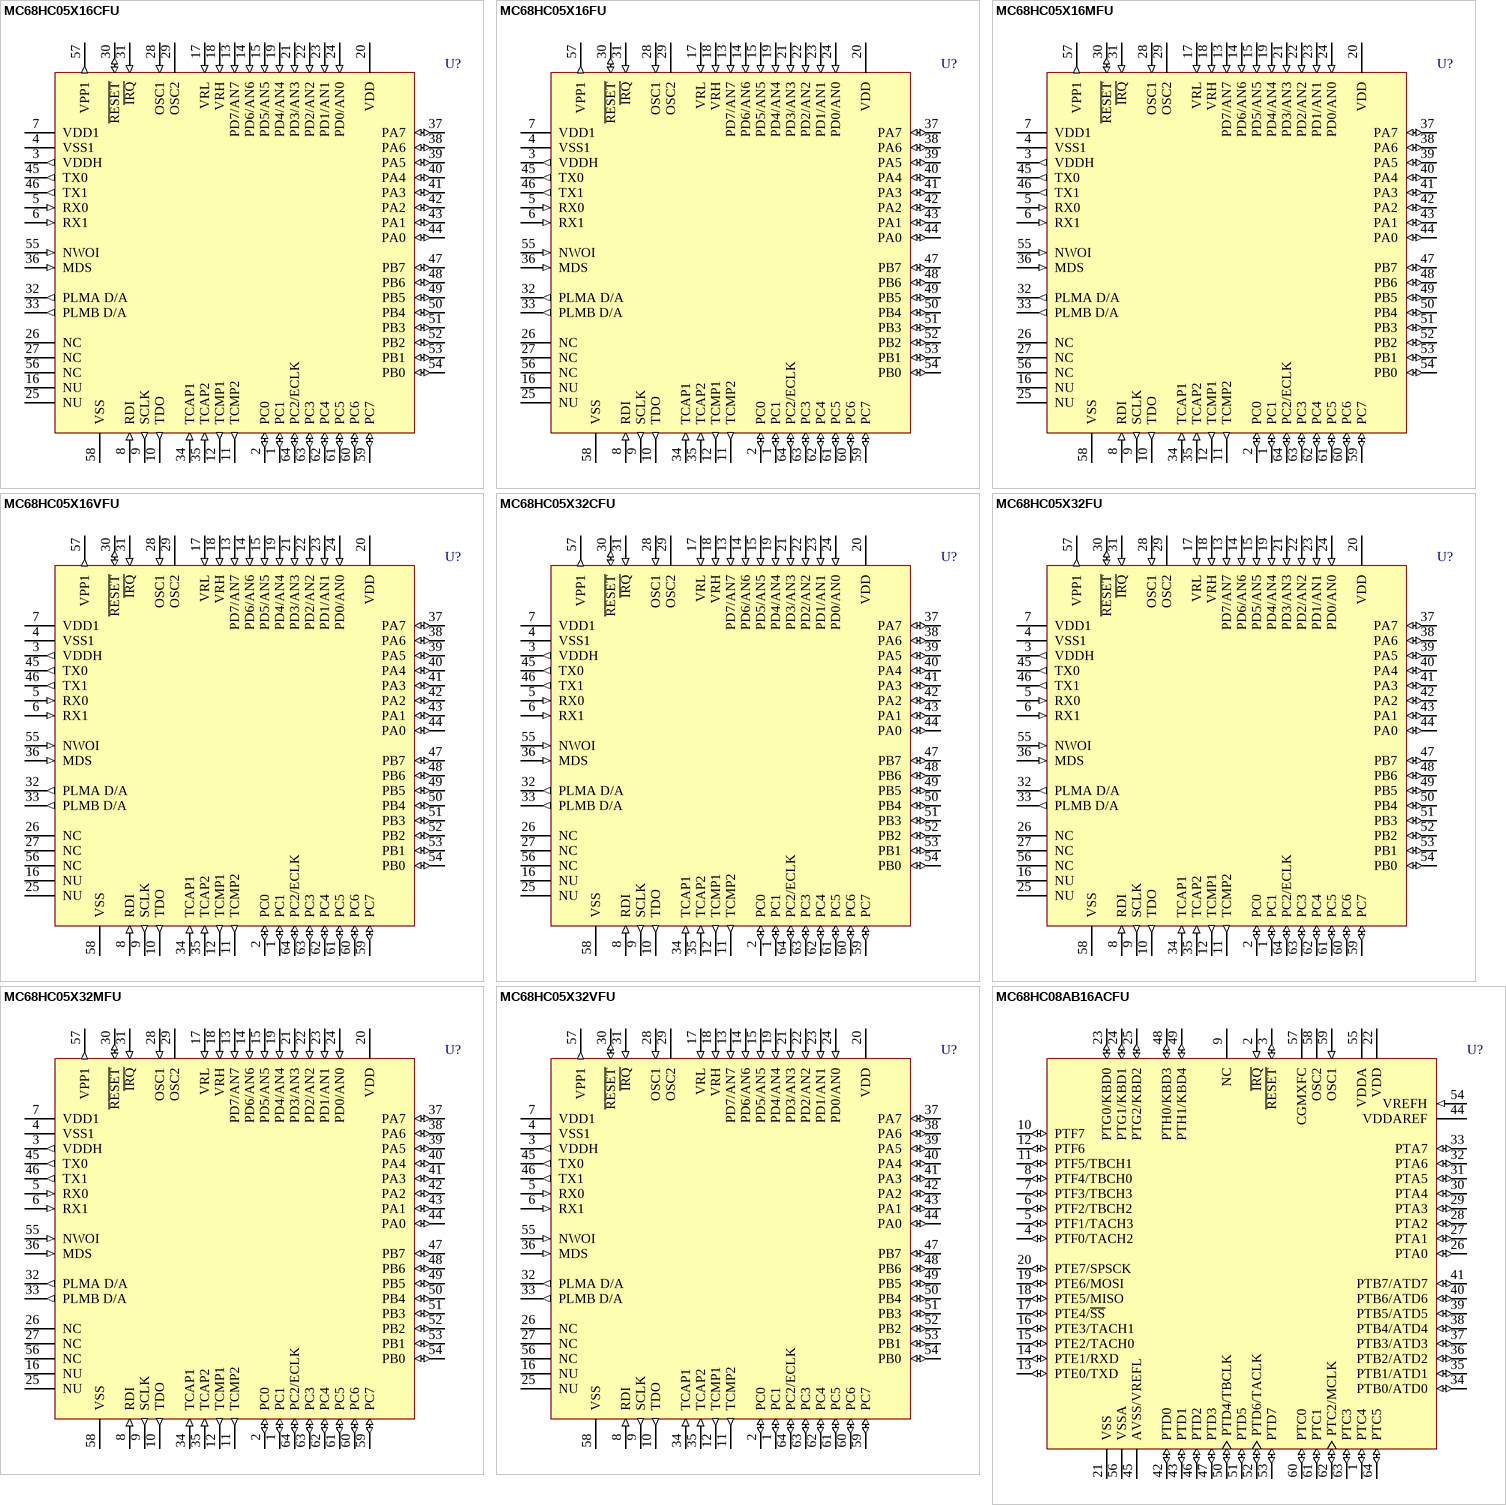
[diagram p13: symbols MC68HC05X16CFU to MC68HC08AB16ACFU]

## MC68HC05X16CFU
designator U?
8-Bit Microcontroller; Note: Pins 16 and 25 (NU=Non-User pin) should be tied to VSS in an electrically noisy environment.; Published: 17-Jan-2003; LatestRevisionDate: 13-Apr-2006; LatestRevisionNote: IPC-7351 Footprint Added.; DatasheetVersion: Rev 1, 1997; PackageVersion: rev4, Jul-2002; PackageReference: 840C; Publisher: Altium Limited; PackageDescription: 64-Pin Quad Flat Pack 0.8 mm Pitch; ComponentLink1Description: Manufacturer Link; ComponentLink1URL: http://www.freescale.com/; ComponentLink2Description: Datasheet; ComponentLink2URL: http://www.freescale.com/files/microcontrollers/doc/data_sheet/MC68HC05X16.pdf
footprint 840C_N (QFP, 64-Leads, Body 14x14mm, Pitch 0.8mm, IPC Medium Density)
footprint 840C_L (QFP, 64-Leads, Body 14x14mm, Pitch 0.8mm, IPC High Density)
footprint 840C_M (QFP, 64-Leads, Body 14x14mm, Pitch 0.8mm, IPC Low Density)
3D model MC68HC05-840C (64-Pin Quad Flat Pack 0.8 mm Pitch)
pins: 1 PC1 (io), 2 PC0 (io), 3 VDDH (out), 4 VSS1 (power), 5 RX0 (in), 6 RX1 (in), 7 VDD1 (power), 8 RDI (in), 9 SCLK (out), 10 TDO (out), 11 TCMP2 (out), 12 TCMP1 (out), 13 PD7/AN7 (in), 14 PD6/AN6 (in), 15 PD5/AN5 (in), 16 NU, 17 VRL (in), 18 VRH (in), 19 PD4/AN4 (in), 20 VDD (power), 21 PD3/AN3 (in), 22 PD2/AN2 (in), 23 PD1/AN1 (in), 24 PD0/AN0 (in), 25 NU, 26 NC, 27 NC, 28 OSC1 (in), 29 OSC2, 30 ~{RESET} (io), 31 ~{IRQ} (in), 32 PLMA D/A (out), 33 PLMB D/A (out), 34 TCAP1 (in), 35 TCAP2 (in), 36 MDS (in), 37 PA7 (io), 38 PA6 (io), 39 PA5 (io), 40 PA4 (io), 41 PA3 (io), 42 PA2 (io), 43 PA1 (io), 44 PA0 (io), 45 TX0 (out), 46 TX1 (out), 47 PB7 (io), 48 PB6 (io), 49 PB5 (io), 50 PB4 (io), 51 PB3 (io), 52 PB2 (io), 53 PB1 (io), 54 PB0 (io), 55 NWOI (in), 56 NC, 57 VPP1 (out), 58 VSS (power), 59 PC7 (io), 60 PC6 (io), 61 PC5 (io), 62 PC4 (io), 63 PC3 (io), 64 PC2/ECLK (io)

## MC68HC05X16FU
designator U?
8-Bit Microcontroller; Note: Pins 16 and 25 (NU=Non-User pin) should be tied to VSS in an electrically noisy environment.; Published: 17-Jan-2003; LatestRevisionDate: 13-Apr-2006; LatestRevisionNote: IPC-7351 Footprint Added.; DatasheetVersion: Rev 1, 1997; PackageVersion: rev4, Jul-2002; PackageReference: 840C; Publisher: Altium Limited; PackageDescription: 64-Pin Quad Flat Pack 0.8 mm Pitch; ComponentLink1Description: Manufacturer Link; ComponentLink1URL: http://www.freescale.com/; ComponentLink2Description: Datasheet; ComponentLink2URL: http://www.freescale.com/files/microcontrollers/doc/data_sheet/MC68HC05X16.pdf
footprint 840C_N (QFP, 64-Leads, Body 14x14mm, Pitch 0.8mm, IPC Medium Density)
footprint 840C_L (QFP, 64-Leads, Body 14x14mm, Pitch 0.8mm, IPC High Density)
footprint 840C_M (QFP, 64-Leads, Body 14x14mm, Pitch 0.8mm, IPC Low Density)
3D model MC68HC05-840C (64-Pin Quad Flat Pack 0.8 mm Pitch)
pins: 1 PC1 (io), 2 PC0 (io), 3 VDDH (out), 4 VSS1 (power), 5 RX0 (in), 6 RX1 (in), 7 VDD1 (power), 8 RDI (in), 9 SCLK (out), 10 TDO (out), 11 TCMP2 (out), 12 TCMP1 (out), 13 PD7/AN7 (in), 14 PD6/AN6 (in), 15 PD5/AN5 (in), 16 NU, 17 VRL (in), 18 VRH (in), 19 PD4/AN4 (in), 20 VDD (power), 21 PD3/AN3 (in), 22 PD2/AN2 (in), 23 PD1/AN1 (in), 24 PD0/AN0 (in), 25 NU, 26 NC, 27 NC, 28 OSC1 (in), 29 OSC2, 30 ~{RESET} (io), 31 ~{IRQ} (in), 32 PLMA D/A (out), 33 PLMB D/A (out), 34 TCAP1 (in), 35 TCAP2 (in), 36 MDS (in), 37 PA7 (io), 38 PA6 (io), 39 PA5 (io), 40 PA4 (io), 41 PA3 (io), 42 PA2 (io), 43 PA1 (io), 44 PA0 (io), 45 TX0 (out), 46 TX1 (out), 47 PB7 (io), 48 PB6 (io), 49 PB5 (io), 50 PB4 (io), 51 PB3 (io), 52 PB2 (io), 53 PB1 (io), 54 PB0 (io), 55 NWOI (in), 56 NC, 57 VPP1 (out), 58 VSS (power), 59 PC7 (io), 60 PC6 (io), 61 PC5 (io), 62 PC4 (io), 63 PC3 (io), 64 PC2/ECLK (io)

## MC68HC05X16MFU
designator U?
8-Bit Microcontroller; Note: Pins 16 and 25 (NU=Non-User pin) should be tied to VSS in an electrically noisy environment.; Published: 17-Jan-2003; LatestRevisionDate: 13-Apr-2006; LatestRevisionNote: IPC-7351 Footprint Added.; DatasheetVersion: Rev 1, 1997; PackageVersion: rev4, Jul-2002; PackageReference: 840C; Publisher: Altium Limited; PackageDescription: 64-Pin Quad Flat Pack 0.8 mm Pitch; ComponentLink1Description: Manufacturer Link; ComponentLink1URL: http://www.freescale.com/; ComponentLink2Description: Datasheet; ComponentLink2URL: http://www.freescale.com/files/microcontrollers/doc/data_sheet/MC68HC05X16.pdf
footprint 840C_N (QFP, 64-Leads, Body 14x14mm, Pitch 0.8mm, IPC Medium Density)
footprint 840C_L (QFP, 64-Leads, Body 14x14mm, Pitch 0.8mm, IPC High Density)
footprint 840C_M (QFP, 64-Leads, Body 14x14mm, Pitch 0.8mm, IPC Low Density)
3D model MC68HC05-840C (64-Pin Quad Flat Pack 0.8 mm Pitch)
pins: 1 PC1 (io), 2 PC0 (io), 3 VDDH (out), 4 VSS1 (power), 5 RX0 (in), 6 RX1 (in), 7 VDD1 (power), 8 RDI (in), 9 SCLK (out), 10 TDO (out), 11 TCMP2 (out), 12 TCMP1 (out), 13 PD7/AN7 (in), 14 PD6/AN6 (in), 15 PD5/AN5 (in), 16 NU, 17 VRL (in), 18 VRH (in), 19 PD4/AN4 (in), 20 VDD (power), 21 PD3/AN3 (in), 22 PD2/AN2 (in), 23 PD1/AN1 (in), 24 PD0/AN0 (in), 25 NU, 26 NC, 27 NC, 28 OSC1 (in), 29 OSC2, 30 ~{RESET} (io), 31 ~{IRQ} (in), 32 PLMA D/A (out), 33 PLMB D/A (out), 34 TCAP1 (in), 35 TCAP2 (in), 36 MDS (in), 37 PA7 (io), 38 PA6 (io), 39 PA5 (io), 40 PA4 (io), 41 PA3 (io), 42 PA2 (io), 43 PA1 (io), 44 PA0 (io), 45 TX0 (out), 46 TX1 (out), 47 PB7 (io), 48 PB6 (io), 49 PB5 (io), 50 PB4 (io), 51 PB3 (io), 52 PB2 (io), 53 PB1 (io), 54 PB0 (io), 55 NWOI (in), 56 NC, 57 VPP1 (out), 58 VSS (power), 59 PC7 (io), 60 PC6 (io), 61 PC5 (io), 62 PC4 (io), 63 PC3 (io), 64 PC2/ECLK (io)

## MC68HC05X16VFU
designator U?
8-Bit Microcontroller; Note: Pins 16 and 25 (NU=Non-User pin) should be tied to VSS in an electrically noisy environment.; Published: 17-Jan-2003; LatestRevisionDate: 13-Apr-2006; LatestRevisionNote: IPC-7351 Footprint Added.; DatasheetVersion: Rev 1, 1997; PackageVersion: rev4, Jul-2002; PackageReference: 840C; Publisher: Altium Limited; PackageDescription: 64-Pin Quad Flat Pack 0.8 mm Pitch; ComponentLink1Description: Manufacturer Link; ComponentLink1URL: http://www.freescale.com/; ComponentLink2Description: Datasheet; ComponentLink2URL: http://www.freescale.com/files/microcontrollers/doc/data_sheet/MC68HC05X16.pdf
footprint 840C_N (QFP, 64-Leads, Body 14x14mm, Pitch 0.8mm, IPC Medium Density)
footprint 840C_L (QFP, 64-Leads, Body 14x14mm, Pitch 0.8mm, IPC High Density)
footprint 840C_M (QFP, 64-Leads, Body 14x14mm, Pitch 0.8mm, IPC Low Density)
3D model MC68HC05-840C (64-Pin Quad Flat Pack 0.8 mm Pitch)
pins: 1 PC1 (io), 2 PC0 (io), 3 VDDH (out), 4 VSS1 (power), 5 RX0 (in), 6 RX1 (in), 7 VDD1 (power), 8 RDI (in), 9 SCLK (out), 10 TDO (out), 11 TCMP2 (out), 12 TCMP1 (out), 13 PD7/AN7 (in), 14 PD6/AN6 (in), 15 PD5/AN5 (in), 16 NU, 17 VRL (in), 18 VRH (in), 19 PD4/AN4 (in), 20 VDD (power), 21 PD3/AN3 (in), 22 PD2/AN2 (in), 23 PD1/AN1 (in), 24 PD0/AN0 (in), 25 NU, 26 NC, 27 NC, 28 OSC1 (in), 29 OSC2, 30 ~{RESET} (io), 31 ~{IRQ} (in), 32 PLMA D/A (out), 33 PLMB D/A (out), 34 TCAP1 (in), 35 TCAP2 (in), 36 MDS (in), 37 PA7 (io), 38 PA6 (io), 39 PA5 (io), 40 PA4 (io), 41 PA3 (io), 42 PA2 (io), 43 PA1 (io), 44 PA0 (io), 45 TX0 (out), 46 TX1 (out), 47 PB7 (io), 48 PB6 (io), 49 PB5 (io), 50 PB4 (io), 51 PB3 (io), 52 PB2 (io), 53 PB1 (io), 54 PB0 (io), 55 NWOI (in), 56 NC, 57 VPP1 (out), 58 VSS (power), 59 PC7 (io), 60 PC6 (io), 61 PC5 (io), 62 PC4 (io), 63 PC3 (io), 64 PC2/ECLK (io)

## MC68HC05X32CFU
designator U?
8-Bit Microcontroller; Note: Pins 16 and 25 (NU=Non-User pin) should be tied to VSS in an electrically noisy environment.; Published: 17-Jan-2003; LatestRevisionDate: 13-Apr-2006; LatestRevisionNote: IPC-7351 Footprint Added.; DatasheetVersion: Rev 1, 1997; PackageVersion: rev4, Jul-2002; PackageReference: 840C; Publisher: Altium Limited; PackageDescription: 64-Pin Quad Flat Pack 0.8 mm Pitch; ComponentLink1Description: Manufacturer Link; ComponentLink1URL: http://www.freescale.com/; ComponentLink2Description: Datasheet; ComponentLink2URL: http://www.freescale.com/files/microcontrollers/doc/data_sheet/MC68HC05X16.pdf
footprint 840C_N (QFP, 64-Leads, Body 14x14mm, Pitch 0.8mm, IPC Medium Density)
footprint 840C_L (QFP, 64-Leads, Body 14x14mm, Pitch 0.8mm, IPC High Density)
footprint 840C_M (QFP, 64-Leads, Body 14x14mm, Pitch 0.8mm, IPC Low Density)
3D model MC68HC05-840C (64-Pin Quad Flat Pack 0.8 mm Pitch)
pins: 1 PC1 (io), 2 PC0 (io), 3 VDDH (out), 4 VSS1 (power), 5 RX0 (in), 6 RX1 (in), 7 VDD1 (power), 8 RDI (in), 9 SCLK (out), 10 TDO (out), 11 TCMP2 (out), 12 TCMP1 (out), 13 PD7/AN7 (in), 14 PD6/AN6 (in), 15 PD5/AN5 (in), 16 NU, 17 VRL (in), 18 VRH (in), 19 PD4/AN4 (in), 20 VDD (power), 21 PD3/AN3 (in), 22 PD2/AN2 (in), 23 PD1/AN1 (in), 24 PD0/AN0 (in), 25 NU, 26 NC, 27 NC, 28 OSC1 (in), 29 OSC2, 30 ~{RESET} (io), 31 ~{IRQ} (in), 32 PLMA D/A (out), 33 PLMB D/A (out), 34 TCAP1 (in), 35 TCAP2 (in), 36 MDS (in), 37 PA7 (io), 38 PA6 (io), 39 PA5 (io), 40 PA4 (io), 41 PA3 (io), 42 PA2 (io), 43 PA1 (io), 44 PA0 (io), 45 TX0 (out), 46 TX1 (out), 47 PB7 (io), 48 PB6 (io), 49 PB5 (io), 50 PB4 (io), 51 PB3 (io), 52 PB2 (io), 53 PB1 (io), 54 PB0 (io), 55 NWOI (in), 56 NC, 57 VPP1 (out), 58 VSS (power), 59 PC7 (io), 60 PC6 (io), 61 PC5 (io), 62 PC4 (io), 63 PC3 (io), 64 PC2/ECLK (io)

## MC68HC05X32FU
designator U?
8-Bit Microcontroller; Note: Pins 16 and 25 (NU=Non-User pin) should be tied to VSS in an electrically noisy environment.; Published: 17-Jan-2003; LatestRevisionDate: 13-Apr-2006; LatestRevisionNote: IPC-7351 Footprint Added.; DatasheetVersion: Rev 1, 1997; PackageVersion: rev4, Jul-2002; PackageReference: 840C; Publisher: Altium Limited; PackageDescription: 64-Pin Quad Flat Pack 0.8 mm Pitch; ComponentLink1Description: Manufacturer Link; ComponentLink1URL: http://www.freescale.com/; ComponentLink2Description: Datasheet; ComponentLink2URL: http://www.freescale.com/files/microcontrollers/doc/data_sheet/MC68HC05X16.pdf
footprint 840C_N (QFP, 64-Leads, Body 14x14mm, Pitch 0.8mm, IPC Medium Density)
footprint 840C_L (QFP, 64-Leads, Body 14x14mm, Pitch 0.8mm, IPC High Density)
footprint 840C_M (QFP, 64-Leads, Body 14x14mm, Pitch 0.8mm, IPC Low Density)
3D model MC68HC05-840C (64-Pin Quad Flat Pack 0.8 mm Pitch)
pins: 1 PC1 (io), 2 PC0 (io), 3 VDDH (out), 4 VSS1 (power), 5 RX0 (in), 6 RX1 (in), 7 VDD1 (power), 8 RDI (in), 9 SCLK (out), 10 TDO (out), 11 TCMP2 (out), 12 TCMP1 (out), 13 PD7/AN7 (in), 14 PD6/AN6 (in), 15 PD5/AN5 (in), 16 NU, 17 VRL (in), 18 VRH (in), 19 PD4/AN4 (in), 20 VDD (power), 21 PD3/AN3 (in), 22 PD2/AN2 (in), 23 PD1/AN1 (in), 24 PD0/AN0 (in), 25 NU, 26 NC, 27 NC, 28 OSC1 (in), 29 OSC2, 30 ~{RESET} (io), 31 ~{IRQ} (in), 32 PLMA D/A (out), 33 PLMB D/A (out), 34 TCAP1 (in), 35 TCAP2 (in), 36 MDS (in), 37 PA7 (io), 38 PA6 (io), 39 PA5 (io), 40 PA4 (io), 41 PA3 (io), 42 PA2 (io), 43 PA1 (io), 44 PA0 (io), 45 TX0 (out), 46 TX1 (out), 47 PB7 (io), 48 PB6 (io), 49 PB5 (io), 50 PB4 (io), 51 PB3 (io), 52 PB2 (io), 53 PB1 (io), 54 PB0 (io), 55 NWOI (in), 56 NC, 57 VPP1 (out), 58 VSS (power), 59 PC7 (io), 60 PC6 (io), 61 PC5 (io), 62 PC4 (io), 63 PC3 (io), 64 PC2/ECLK (io)

## MC68HC05X32MFU
designator U?
8-Bit Microcontroller; Note: Pins 16 and 25 (NU=Non-User pin) should be tied to VSS in an electrically noisy environment.; Published: 17-Jan-2003; LatestRevisionDate: 13-Apr-2006; LatestRevisionNote: IPC-7351 Footprint Added.; DatasheetVersion: Rev 1, 1997; PackageVersion: rev4, Jul-2002; PackageReference: 840C; Publisher: Altium Limited; PackageDescription: 64-Pin Quad Flat Pack 0.8 mm Pitch; ComponentLink1Description: Manufacturer Link; ComponentLink1URL: http://www.freescale.com/; ComponentLink2Description: Datasheet; ComponentLink2URL: http://www.freescale.com/files/microcontrollers/doc/data_sheet/MC68HC05X16.pdf
footprint 840C_N (QFP, 64-Leads, Body 14x14mm, Pitch 0.8mm, IPC Medium Density)
footprint 840C_L (QFP, 64-Leads, Body 14x14mm, Pitch 0.8mm, IPC High Density)
footprint 840C_M (QFP, 64-Leads, Body 14x14mm, Pitch 0.8mm, IPC Low Density)
3D model MC68HC05-840C (64-Pin Quad Flat Pack 0.8 mm Pitch)
pins: 1 PC1 (io), 2 PC0 (io), 3 VDDH (out), 4 VSS1 (power), 5 RX0 (in), 6 RX1 (in), 7 VDD1 (power), 8 RDI (in), 9 SCLK (out), 10 TDO (out), 11 TCMP2 (out), 12 TCMP1 (out), 13 PD7/AN7 (in), 14 PD6/AN6 (in), 15 PD5/AN5 (in), 16 NU, 17 VRL (in), 18 VRH (in), 19 PD4/AN4 (in), 20 VDD (power), 21 PD3/AN3 (in), 22 PD2/AN2 (in), 23 PD1/AN1 (in), 24 PD0/AN0 (in), 25 NU, 26 NC, 27 NC, 28 OSC1 (in), 29 OSC2, 30 ~{RESET} (io), 31 ~{IRQ} (in), 32 PLMA D/A (out), 33 PLMB D/A (out), 34 TCAP1 (in), 35 TCAP2 (in), 36 MDS (in), 37 PA7 (io), 38 PA6 (io), 39 PA5 (io), 40 PA4 (io), 41 PA3 (io), 42 PA2 (io), 43 PA1 (io), 44 PA0 (io), 45 TX0 (out), 46 TX1 (out), 47 PB7 (io), 48 PB6 (io), 49 PB5 (io), 50 PB4 (io), 51 PB3 (io), 52 PB2 (io), 53 PB1 (io), 54 PB0 (io), 55 NWOI (in), 56 NC, 57 VPP1 (out), 58 VSS (power), 59 PC7 (io), 60 PC6 (io), 61 PC5 (io), 62 PC4 (io), 63 PC3 (io), 64 PC2/ECLK (io)

## MC68HC05X32VFU
designator U?
8-Bit Microcontroller; Note: Pins 16 and 25 (NU=Non-User pin) should be tied to VSS in an electrically noisy environment.; Published: 17-Jan-2003; LatestRevisionDate: 13-Apr-2006; LatestRevisionNote: IPC-7351 Footprint Added.; DatasheetVersion: Rev 1, 1997; PackageVersion: rev4, Jul-2002; PackageReference: 840C; Publisher: Altium Limited; PackageDescription: 64-Pin Quad Flat Pack 0.8 mm Pitch; ComponentLink1Description: Manufacturer Link; ComponentLink1URL: http://www.freescale.com/; ComponentLink2Description: Datasheet; ComponentLink2URL: http://www.freescale.com/files/microcontrollers/doc/data_sheet/MC68HC05X16.pdf
footprint 840C_N (QFP, 64-Leads, Body 14x14mm, Pitch 0.8mm, IPC Medium Density)
footprint 840C_L (QFP, 64-Leads, Body 14x14mm, Pitch 0.8mm, IPC High Density)
footprint 840C_M (QFP, 64-Leads, Body 14x14mm, Pitch 0.8mm, IPC Low Density)
3D model MC68HC05-840C (64-Pin Quad Flat Pack 0.8 mm Pitch)
pins: 1 PC1 (io), 2 PC0 (io), 3 VDDH (out), 4 VSS1 (power), 5 RX0 (in), 6 RX1 (in), 7 VDD1 (power), 8 RDI (in), 9 SCLK (out), 10 TDO (out), 11 TCMP2 (out), 12 TCMP1 (out), 13 PD7/AN7 (in), 14 PD6/AN6 (in), 15 PD5/AN5 (in), 16 NU, 17 VRL (in), 18 VRH (in), 19 PD4/AN4 (in), 20 VDD (power), 21 PD3/AN3 (in), 22 PD2/AN2 (in), 23 PD1/AN1 (in), 24 PD0/AN0 (in), 25 NU, 26 NC, 27 NC, 28 OSC1 (in), 29 OSC2, 30 ~{RESET} (io), 31 ~{IRQ} (in), 32 PLMA D/A (out), 33 PLMB D/A (out), 34 TCAP1 (in), 35 TCAP2 (in), 36 MDS (in), 37 PA7 (io), 38 PA6 (io), 39 PA5 (io), 40 PA4 (io), 41 PA3 (io), 42 PA2 (io), 43 PA1 (io), 44 PA0 (io), 45 TX0 (out), 46 TX1 (out), 47 PB7 (io), 48 PB6 (io), 49 PB5 (io), 50 PB4 (io), 51 PB3 (io), 52 PB2 (io), 53 PB1 (io), 54 PB0 (io), 55 NWOI (in), 56 NC, 57 VPP1 (out), 58 VSS (power), 59 PC7 (io), 60 PC6 (io), 61 PC5 (io), 62 PC4 (io), 63 PC3 (io), 64 PC2/ECLK (io)

## MC68HC08AB16ACFU
designator U?
8-Bit Microcontroller; Published: 17-Jan-2003; LatestRevisionDate: 13-Apr-2006; LatestRevisionNote: IPC-7351 Footprint Added.; DatasheetVersion: Rev 2, 2000; PackageVersion: rev2, 2000; PackageReference: 840B-01; Publisher: Altium Limited; PackageDescription: 64-Pin Quad Flat Pack 0.8 mm Pitch; Code_IPC: QFP80P1720X1720-64; ComponentLink1Description: Manufacturer Link; ComponentLink1URL: http://www.freescale.com/; ComponentLink2Description: Datasheet; ComponentLink2URL: http://www.freescale.com/files/microcontrollers/doc/data_sheet/MC68HC08AB16A.pdf
footprint 840B-01_N (QFP, 64-Leads, Body 14x14mm, Pitch 0.8mm, IPC Medium Density)
footprint 840B-01_L (QFP, 64-Leads, Body 14x14mm, Pitch 0.8mm, IPC High Density)
footprint 840B-01_M (QFP, 64-Leads, Body 14x14mm, Pitch 0.8mm, IPC Low Density)
3D model MC68HC08-840B-01 (64-Pin Quad Flat Pack 0.8 mm Pitch)
pins: 1 PTC4 (io), 2 ~{IRQ} (in), 3 ~{RESET} (io), 4 PTF0/TACH2 (io), 5 PTF1/TACH3 (io), 6 PTF2/TBCH2 (io), 7 PTF3/TBCH3 (io), 8 PTF4/TBCH0 (io), 9 NC, 10 PTF7 (io), 11 PTF5/TBCH1 (io), 12 PTF6 (io), 13 PTE0/TXD (io), 14 PTE1/RXD (io), 15 PTE2/TACH0 (io), 16 PTE3/TACH1 (io), 17 PTE4/~{SS} (io), 18 PTE5/MISO (io), 19 PTE6/MOSI (io), 20 PTE7/SPSCK (io), 21 VSS (power), 22 VDD (power), 23 PTG0/KBD0 (io), 24 PTG1/KBD1 (io), 25 PTG2/KBD2 (io), 26 PTA0 (io), 27 PTA1 (io), 28 PTA2 (io), 29 PTA3 (io), 30 PTA4 (io), 31 PTA5 (io), 32 PTA6 (io), 33 PTA7 (io), 34 PTB0/ATD0 (io), 35 PTB1/ATD1 (io), 36 PTB2/ATD2 (io), 37 PTB3/ATD3 (io), 38 PTB4/ATD4 (io), 39 PTB5/ATD5 (io), 40 PTB6/ATD6 (io), 41 PTB7/ATD7 (io), 42 PTD0 (io), 43 PTD1 (io), 44 VDDAREF (power), 45 AVSS/VREFL (power), 46 PTD2 (io), 47 PTD3 (io), 48 PTH0/KBD3 (io), 49 PTH1/KBD4 (io), 50 PTD4/TBCLK (io), 51 PTD5 (io), 52 PTD6/TACLK (io), 53 PTD7 (io), 54 VREFH (in), 55 VDDA (power), 56 VSSA (power), 57 CGMXFC, 58 OSC2, 59 OSC1 (in), 60 PTC0 (io), 61 PTC1 (io), 62 PTC2/MCLK (io), 63 PTC3 (io), 64 PTC5 (io)

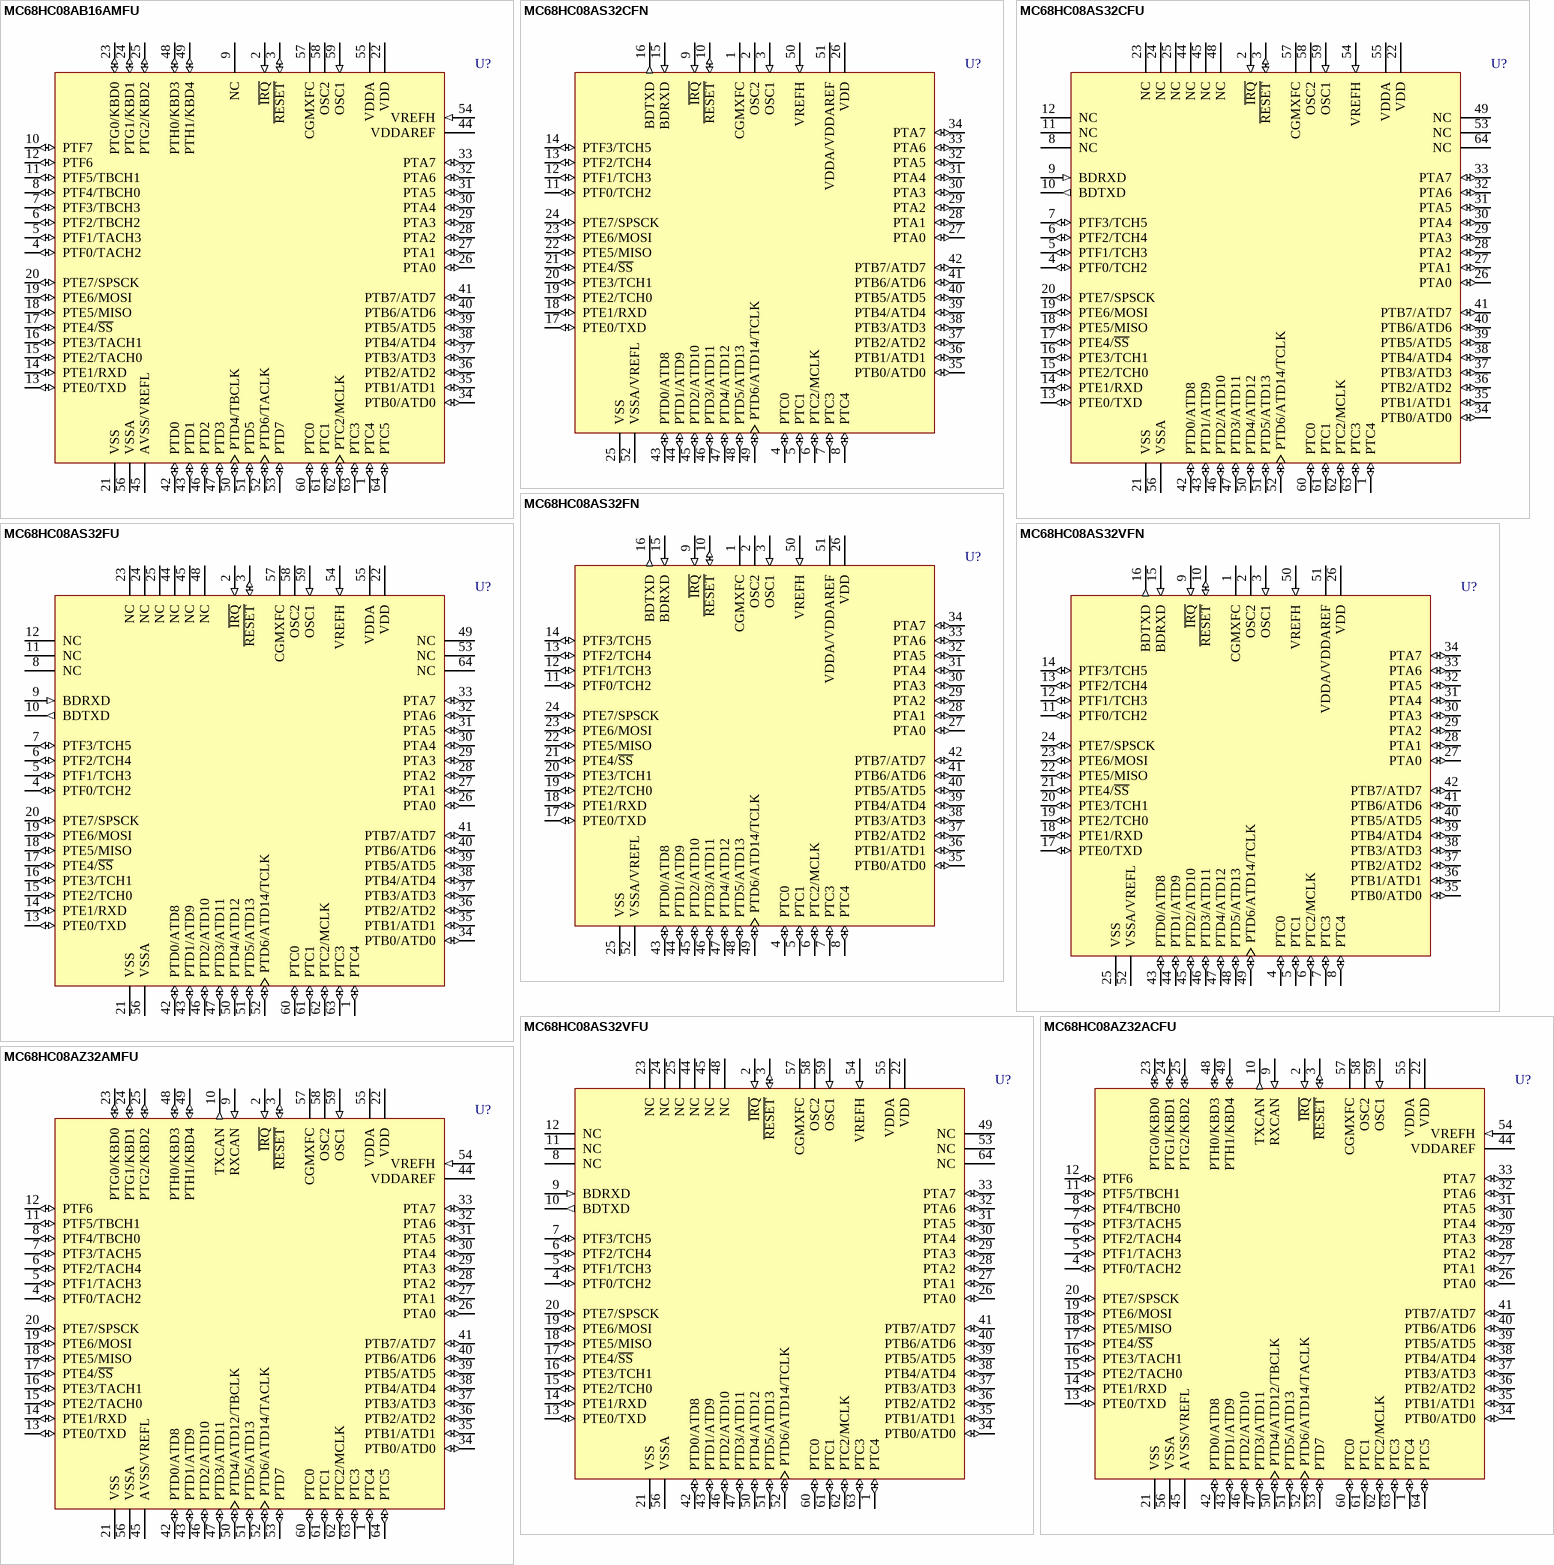
[diagram p14: symbols MC68HC08AB16AMFU to MC68HC08AZ32AMFU]

## MC68HC08AB16AMFU
designator U?
8-Bit Microcontroller; Published: 17-Jan-2003; LatestRevisionDate: 13-Apr-2006; LatestRevisionNote: IPC-7351 Footprint Added.; DatasheetVersion: Rev 2, 2000; PackageVersion: rev2, 2000; PackageReference: 840B-01; Publisher: Altium Limited; PackageDescription: 64-Pin Quad Flat Pack 0.8 mm Pitch; Code_IPC: QFP80P1720X1720-64; ComponentLink1Description: Manufacturer Link; ComponentLink1URL: http://www.freescale.com/; ComponentLink2Description: Datasheet; ComponentLink2URL: http://www.freescale.com/files/microcontrollers/doc/data_sheet/MC68HC08AB16A.pdf
footprint 840B-01_N (QFP, 64-Leads, Body 14x14mm, Pitch 0.8mm, IPC Medium Density)
footprint 840B-01_L (QFP, 64-Leads, Body 14x14mm, Pitch 0.8mm, IPC High Density)
footprint 840B-01_M (QFP, 64-Leads, Body 14x14mm, Pitch 0.8mm, IPC Low Density)
3D model MC68HC08-840B-01 (64-Pin Quad Flat Pack 0.8 mm Pitch)
pins: 1 PTC4 (io), 2 ~{IRQ} (in), 3 ~{RESET} (io), 4 PTF0/TACH2 (io), 5 PTF1/TACH3 (io), 6 PTF2/TBCH2 (io), 7 PTF3/TBCH3 (io), 8 PTF4/TBCH0 (io), 9 NC, 10 PTF7 (io), 11 PTF5/TBCH1 (io), 12 PTF6 (io), 13 PTE0/TXD (io), 14 PTE1/RXD (io), 15 PTE2/TACH0 (io), 16 PTE3/TACH1 (io), 17 PTE4/~{SS} (io), 18 PTE5/MISO (io), 19 PTE6/MOSI (io), 20 PTE7/SPSCK (io), 21 VSS (power), 22 VDD (power), 23 PTG0/KBD0 (io), 24 PTG1/KBD1 (io), 25 PTG2/KBD2 (io), 26 PTA0 (io), 27 PTA1 (io), 28 PTA2 (io), 29 PTA3 (io), 30 PTA4 (io), 31 PTA5 (io), 32 PTA6 (io), 33 PTA7 (io), 34 PTB0/ATD0 (io), 35 PTB1/ATD1 (io), 36 PTB2/ATD2 (io), 37 PTB3/ATD3 (io), 38 PTB4/ATD4 (io), 39 PTB5/ATD5 (io), 40 PTB6/ATD6 (io), 41 PTB7/ATD7 (io), 42 PTD0 (io), 43 PTD1 (io), 44 VDDAREF (power), 45 AVSS/VREFL (power), 46 PTD2 (io), 47 PTD3 (io), 48 PTH0/KBD3 (io), 49 PTH1/KBD4 (io), 50 PTD4/TBCLK (io), 51 PTD5 (io), 52 PTD6/TACLK (io), 53 PTD7 (io), 54 VREFH (in), 55 VDDA (power), 56 VSSA (power), 57 CGMXFC, 58 OSC2, 59 OSC1 (in), 60 PTC0 (io), 61 PTC1 (io), 62 PTC2/MCLK (io), 63 PTC3 (io), 64 PTC5 (io)

## MC68HC08AS32CFN
designator U?
8-Bit Microcontroller; Published: 17-Jan-2003; LatestRevisionDate: 13-Apr-2006; LatestRevisionNote: IPC-7351 Footprint Added.; DatasheetVersion: Rev 3, 1997; PackageVersion: rev3, 1997; PackageReference: 778-02; Publisher: Altium Limited; PackageDescription: 52-Pin Plastic Leaded Chip Carrier 1.27 mm Pitch; ComponentLink1Description: Manufacturer Link; ComponentLink1URL: http://www.freescale.com/
footprint 778-02_N (Leaded Chip Carrier, 52-Leads, Body 19x19mm, Pitch 1.27mm, IPC Medium Density)
footprint 778-02_L (Leaded Chip Carrier, 52-Leads, Body 19x19mm, Pitch 1.27mm, IPC High Density)
footprint 778-02_M (Leaded Chip Carrier, 52-Leads, Body 19x19mm, Pitch 1.27mm, IPC Low Density)
3D model MC68HC08-778-02 (52-Pin Plastic Leaded Chip Carrier 1.27 mm Pitch)
pins: 1 CGMXFC, 2 OSC2, 3 OSC1 (in), 4 PTC0 (io), 5 PTC1 (io), 6 PTC2/MCLK (io), 7 PTC3 (io), 8 PTC4 (io), 9 ~{IRQ} (in), 10 ~{RESET} (io), 11 PTF0/TCH2 (io), 12 PTF1/TCH3 (io), 13 PTF2/TCH4 (io), 14 PTF3/TCH5 (io), 15 BDRXD (in), 16 BDTXD (out), 17 PTE0/TXD (io), 18 PTE1/RXD (io), 19 PTE2/TCH0 (io), 20 PTE3/TCH1 (io), 21 PTE4/~{SS} (io), 22 PTE5/MISO (io), 23 PTE6/MOSI (io), 24 PTE7/SPSCK (io), 25 VSS (power), 26 VDD (power), 27 PTA0 (io), 28 PTA1 (io), 29 PTA2 (io), 30 PTA3 (io), 31 PTA4 (io), 32 PTA5 (io), 33 PTA6 (io), 34 PTA7 (io), 35 PTB0/ATD0 (io), 36 PTB1/ATD1 (io), 37 PTB2/ATD2 (io), 38 PTB3/ATD3 (io), 39 PTB4/ATD4 (io), 40 PTB5/ATD5 (io), 41 PTB6/ATD6 (io), 42 PTB7/ATD7 (io), 43 PTD0/ATD8 (io), 44 PTD1/ATD9 (io), 45 PTD2/ATD10 (io), 46 PTD3/ATD11 (io), 47 PTD4/ATD12 (io), 48 PTD5/ATD13 (io), 49 PTD6/ATD14/TCLK (io), 50 VREFH (in), 51 VDDA/VDDAREF (power), 52 VSSA/VREFL (power)

## MC68HC08AS32CFU
designator U?
8-Bit Microcontroller; Published: 17-Jan-2003; LatestRevisionDate: 13-Apr-2006; LatestRevisionNote: IPC-7351 Footprint Added.; DatasheetVersion: Rev 3, 1997; PackageVersion: rev2, 2000; PackageReference: 840B-01; Publisher: Altium Limited; PackageDescription: 64-Pin Quad Flat Pack 0.8 mm Pitch; Code_IPC: QFP80P1720X1720-64; ComponentLink1Description: Manufacturer Link; ComponentLink1URL: http://www.freescale.com/
footprint 840B-01_N (QFP, 64-Leads, Body 14x14mm, Pitch 0.8mm, IPC Medium Density)
footprint 840B-01_L (QFP, 64-Leads, Body 14x14mm, Pitch 0.8mm, IPC High Density)
footprint 840B-01_M (QFP, 64-Leads, Body 14x14mm, Pitch 0.8mm, IPC Low Density)
3D model MC68HC08-840B-01 (64-Pin Quad Flat Pack 0.8 mm Pitch)
pins: 1 PTC4 (io), 2 ~{IRQ} (in), 3 ~{RESET} (io), 4 PTF0/TCH2 (io), 5 PTF1/TCH3 (io), 6 PTF2/TCH4 (io), 7 PTF3/TCH5 (io), 8 NC, 9 BDRXD (in), 10 BDTXD (out), 11 NC, 12 NC, 13 PTE0/TXD (io), 14 PTE1/RXD (io), 15 PTE2/TCH0 (io), 16 PTE3/TCH1 (io), 17 PTE4/~{SS} (io), 18 PTE5/MISO (io), 19 PTE6/MOSI (io), 20 PTE7/SPSCK (io), 21 VSS (power), 22 VDD (power), 23 NC, 24 NC, 25 NC, 26 PTA0 (io), 27 PTA1 (io), 28 PTA2 (io), 29 PTA3 (io), 30 PTA4 (io), 31 PTA5 (io), 32 PTA6 (io), 33 PTA7 (io), 34 PTB0/ATD0 (io), 35 PTB1/ATD1 (io), 36 PTB2/ATD2 (io), 37 PTB3/ATD3 (io), 38 PTB4/ATD4 (io), 39 PTB5/ATD5 (io), 40 PTB6/ATD6 (io), 41 PTB7/ATD7 (io), 42 PTD0/ATD8 (io), 43 PTD1/ATD9 (io), 44 NC, 45 NC, 46 PTD2/ATD10 (io), 47 PTD3/ATD11 (io), 48 NC, 49 NC, 50 PTD4/ATD12 (io), 51 PTD5/ATD13 (io), 52 PTD6/ATD14/TCLK (io), 53 NC, 54 VREFH (in), 55 VDDA (power), 56 VSSA (power), 57 CGMXFC, 58 OSC2, 59 OSC1 (in), 60 PTC0 (io), 61 PTC1 (io), 62 PTC2/MCLK (io), 63 PTC3 (io), 64 NC